# Altium schematic symbol library hphonglib.SchLib: 598 symbols (part 5 of 8)
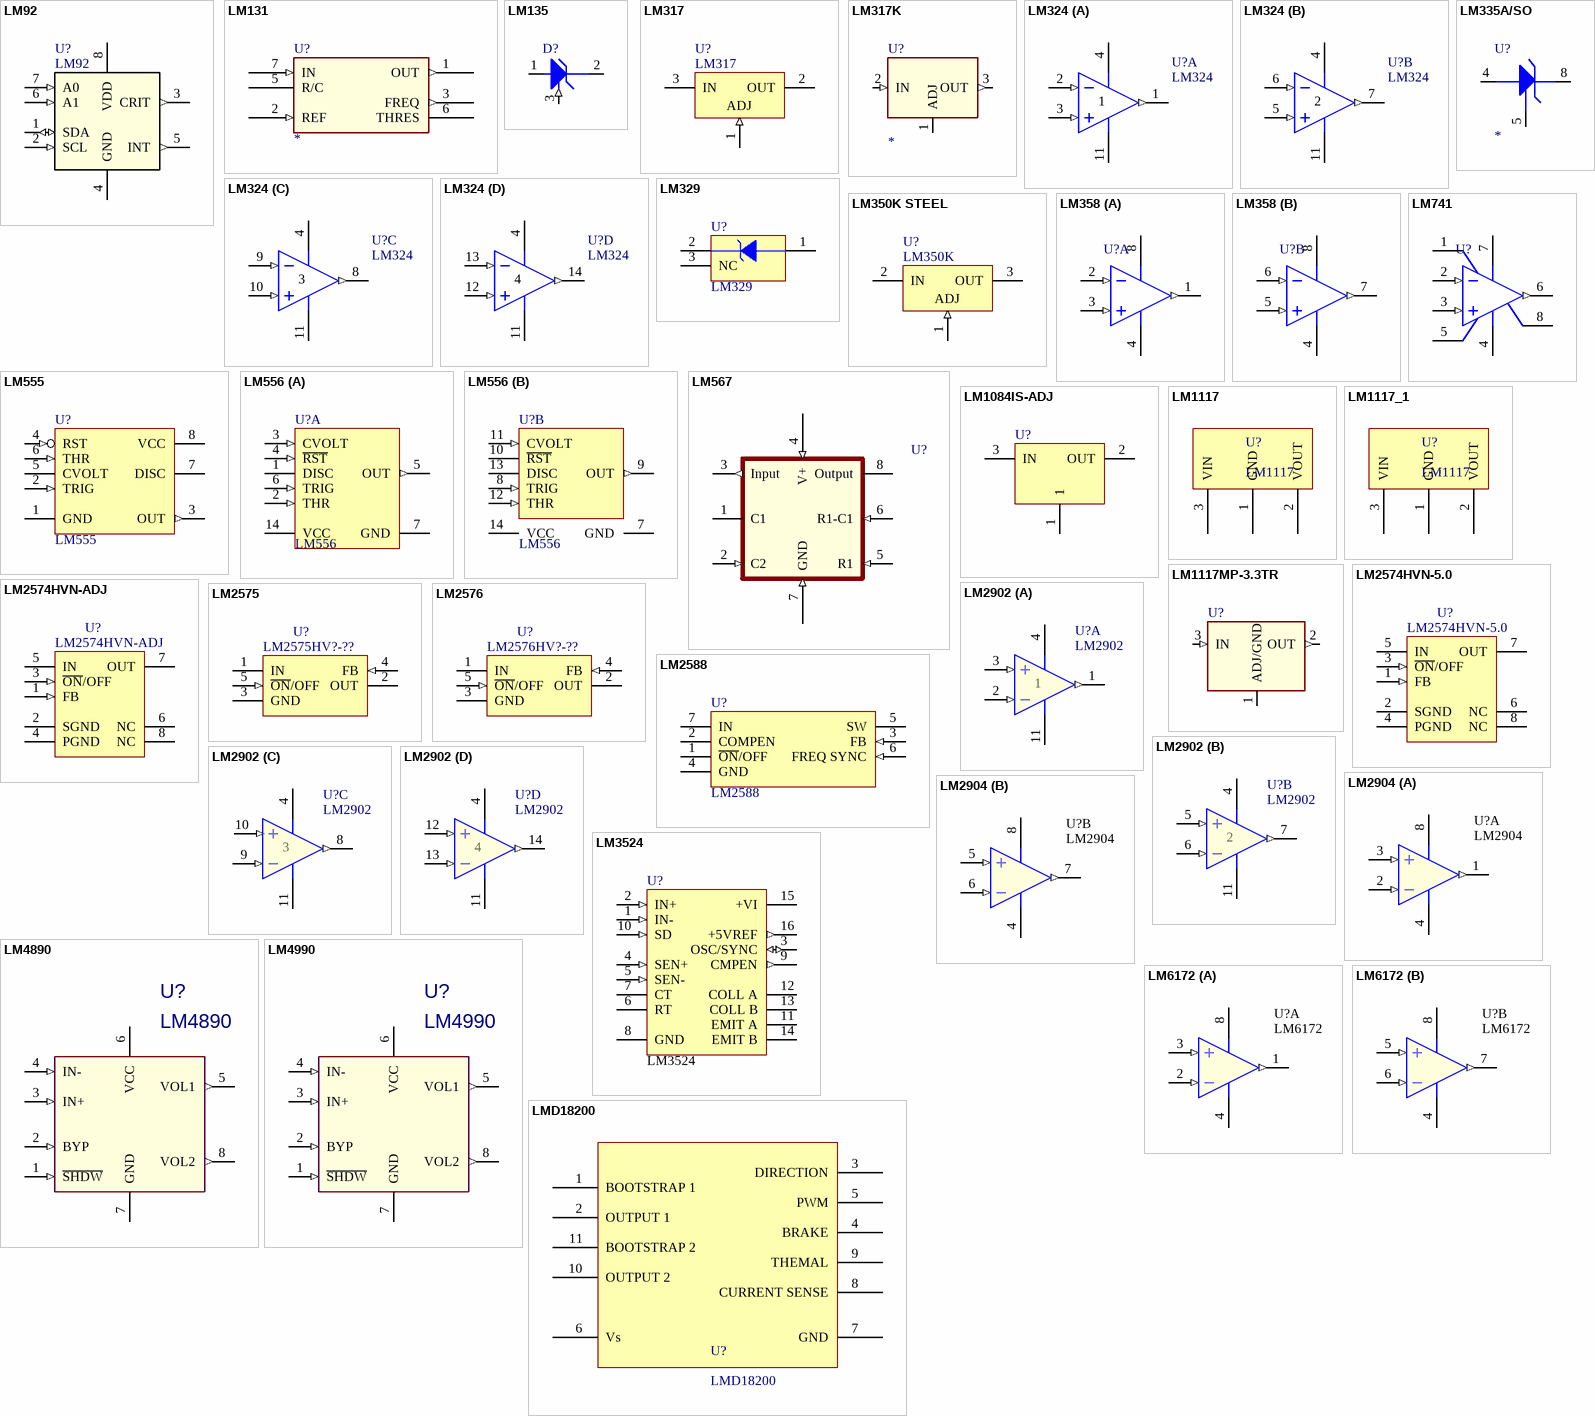
[diagram p35: symbols LM92 to LMD18200]

## LM2902
designator U?
Low-Power Quad Operational Amplifier; Published: 15-Apr-2002; LatestRevisionDate: 06-Jun-2005; LatestRevisionNote: Stylized 3D Model Added.; DatasheetVersion: May-1999; PackageVersion: 2000; PackageReference: N14A; Publisher: Altium Limited; PackageDescription: DIP; 14 Leads; Row Spacing 7.62 mm; Pitch 2.54 mm; ComponentLink1Description: Manufacturer Link; ComponentLink1URL: http://www.national.com/; ComponentLink2Description: Datasheet; ComponentLink2URL: http://www.national.com/ds.cgi/LM/LM124.pdf; ComponentLink3Description: URL Link1; ComponentLink3URL: http://www.national.com/pf/LM/LM324.html
footprint DIP14 (DIP; 14 Leads; Row Spacing 7.62 mm; Pitch 2.54 mm)
footprint SOIC14 (SOIC, 14-Leads, Body 8.6x3.9mm, Pitch 1.27mm, IPC Medium Density)
pins on every part: 4 V+ (power), 11 GND (power)
part A pins: 1 OUT (out), 2 IN- (in), 3 IN+ (in)
part B pins: 5 IN+ (in), 6 IN- (in), 7 OUT (out)
part C pins: 8 OUT (out), 9 IN- (in), 10 IN+ (in)
part D pins: 12 IN+ (in), 13 IN- (in), 14 OUT (out)

## LM2904
designator U?
Low-Power Dual Operational Amplifier; Published: 15-Apr-2002; LatestRevisionDate: 06-Jun-2005; LatestRevisionNote: Stylized 3D Model Added.; DatasheetVersion: Sep-1999; PackageVersion: Sep-1997; PackageReference: N08E; Publisher: Altium Limited; PackageDescription: DIP; 8 Leads; Row Spacing 7.62 mm; Pitch 2.54 mm; ComponentLink1Description: Manufacturer Link; ComponentLink1URL: http://www.national.com/; ComponentLink2Description: Datasheet; ComponentLink2URL: http://www.national.com/ds.cgi/LM/LM158.pdf; ComponentLink3Description: URL Link1; ComponentLink3URL: http://www.national.com/pf/LM/LM358.html
footprint DIP-8 (DIP; 8 Leads; Row Spacing 7.62 mm; Pitch 2.54 mm)
footprint SOIC8 (SOIC, 8-Leads, Body 4.9x3.9mm, Pitch 1.27mm, IPC Medium Density)
pins on every part: 4 GND (power), 8 V+ (power)
part A pins: 1 OUT (out), 2 IN- (in), 3 IN+ (in)
part B pins: 5 IN+ (in), 6 IN- (in), 7 OUT (out)

## LM3524
designator U?
Regulating Pulse Width Modulator; Published: 15-Apr-2002; LatestRevisionDate: 06-Jun-2005; LatestRevisionNote: Stylized 3D Model Added.; DatasheetVersion: Jun-1999; PackageVersion: 2000; PackageReference: N16E; Publisher: Altium Limited; PackageDescription: DIP; 16 Leads; Row Spacing 7.62 mm; Pitch 2.54 mm; ComponentLink1Description: Manufacturer Link; ComponentLink1URL: http://www.national.com/; ComponentLink2Description: Datasheet; ComponentLink2URL: http://www.national.com/ds.cgi/LM/LM2524D.pdf; ComponentLink3Description: URL Link1; ComponentLink3URL: http://www.national.com/pf/LM/LM3524D.html
footprint DIP16 (DIP; 16 Leads; Row Spacing 7.62 mm; Pitch 2.54 mm)
footprint SOIC16 (SOIC, 16-Leads, Body 10.3x7.5mm, Pitch 1.27mm, IPC Medium Density)
pins: 1 IN- (in), 2 IN+ (in), 3 OSC/SYNC (io), 4 SEN+ (in), 5 SEN- (in), 6 RT, 7 CT, 8 GND (power), 9 CMPEN (out), 10 SD (in), 11 EMIT A, 12 COLL A, 13 COLL B, 14 EMIT B, 15 +VI (power), 16 +5VREF (out)

## LM4890
designator U?
Audio power amplifier - 1 W RMS; Value: *; ComponentLink2URL: H:\LIBRARY\LIBRARY.Datasheet\
footprint SOIC8 (SOIC, 8-Leads, Body 4.9x3.9mm, Pitch 1.27mm, IPC Medium Density)
pins: 1 ~{SHDW} (in), 2 BYP (in), 3 IN+ (in), 4 IN- (in), 5 VOL1 (out), 6 VCC (power), 7 GND (power), 8 VOL2 (out)

## LM4990
designator U?
Audio power amplifier - 2 W RMS; Value: *; ComponentLink2URL: H:\LIBRARY\LIBRARY.Datasheet\
footprint SOIC8 (SOIC, 8-Leads, Body 4.9x3.9mm, Pitch 1.27mm, IPC Medium Density)
pins: 1 ~{SHDW} (in), 2 BYP (in), 3 IN+ (in), 4 IN- (in), 5 VOL1 (out), 6 VCC (power), 7 GND (power), 8 VOL2 (out)

## LM6172
designator U?
Dual High-Speed, Low-Power, Low-Distortion, Voltage Feedback Amplifier; Published: 15-Apr-2002; LatestRevisionDate: 06-Jun-2005; LatestRevisionNote: Stylized 3D Model Added.; DatasheetVersion: Sep-1999; PackageVersion: Sep-1997; PackageReference: N08E; Publisher: Altium Limited; PackageDescription: DIP; 8 Leads; Row Spacing 7.62 mm; Pitch 2.54 mm; ComponentLink1Description: Manufacturer Link; ComponentLink1URL: http://www.national.com/; ComponentLink2Description: Datasheet; ComponentLink2URL: http://www.national.com/ds.cgi/LM/LM158.pdf; ComponentLink3Description: URL Link1; ComponentLink3URL: http://www.national.com/pf/LM/LM358.html
footprint DIP-8 (DIP; 8 Leads; Row Spacing 7.62 mm; Pitch 2.54 mm)
footprint SOIC8 (SOIC, 8-Leads, Body 4.9x3.9mm, Pitch 1.27mm, IPC Medium Density)
pins on every part: 4 GND (power), 8 V+ (power)
part A pins: 1 OUT (out), 2 IN- (in), 3 IN+ (in)
part B pins: 5 IN+ (in), 6 IN- (in), 7 OUT (out)

## LMD18200
designator U?
3A, 55V H-Bridge
footprint TO-220-11 (TO-220; 11 Bent Staggered Leads; Solder Pad 35mil)
pins: 1 BOOTSTRAP 1, 2 OUTPUT 1, 3 DIRECTION, 4 BRAKE, 5 PWM, 6 Vs, 7 GND, 8 CURRENT SENSE, 9 THEMAL, 10 OUTPUT 2, 11 BOOTSTRAP 2

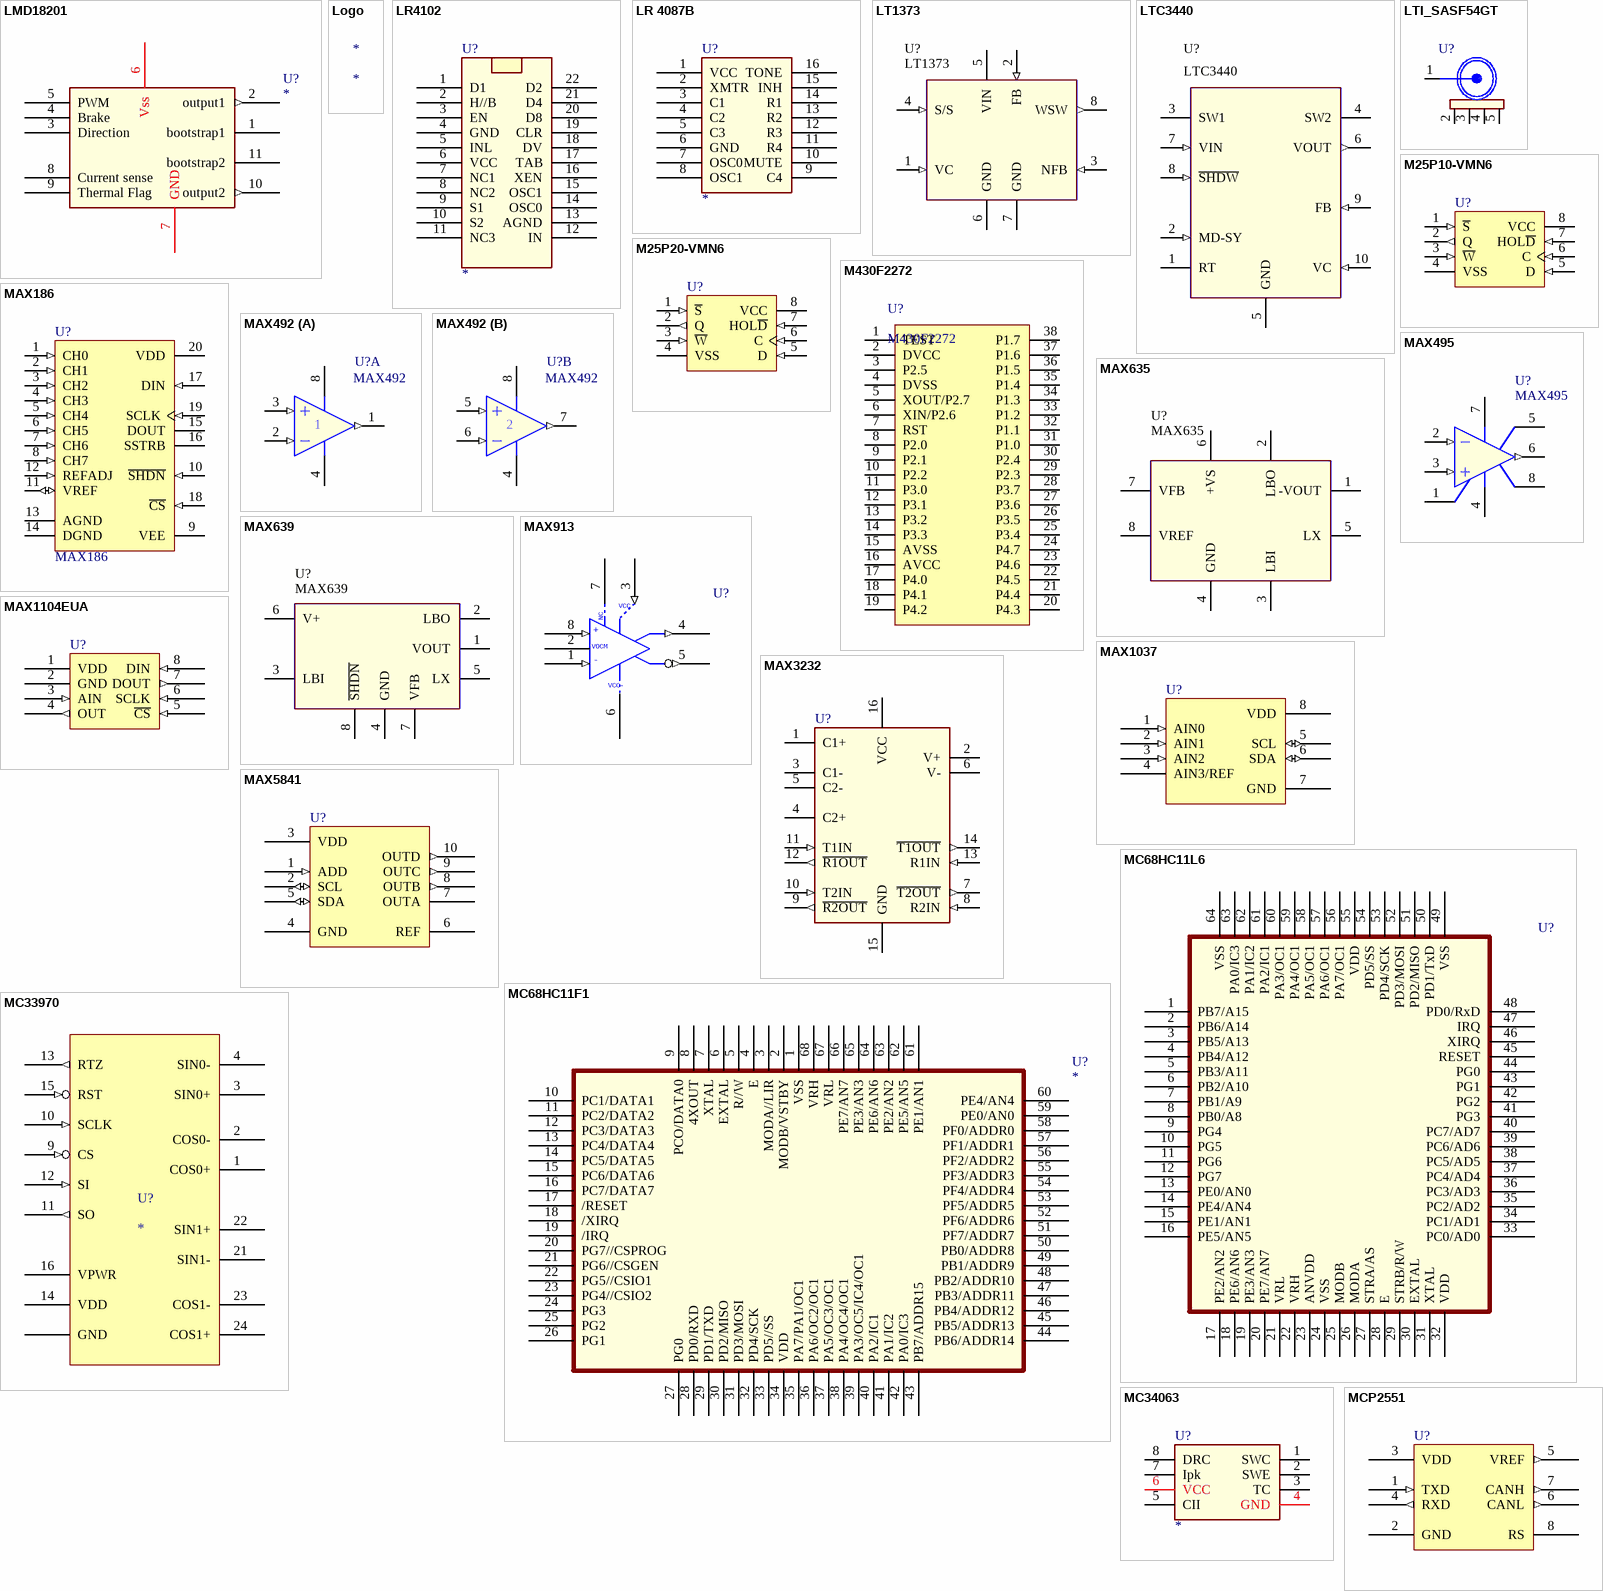
[diagram p16: symbols LMD18201 to MCP2551]

## LMD18201
designator U?
Vendor: Digikey; Published: 13-April-2009; Publisher: Hoang Nguyen; ComponentLink1Description: Digikey Part Link; ComponentLink2Description: Open Datasheet; ComponentLink2URL: H:\LIBRARY\LIBRARY.Datasheet\
pins: 1 bootstrap1, 2 output1 (out), 3 Direction, 4 Brake, 5 PWM, 6 Vss (power), 7 GND (power), 8 Current sense, 9 Thermal Flag, 10 output2 (out), 11 bootstrap2

## Logo
designator *
footprint logo USB
footprint LOGO.Philips
footprint LOGO.SAMSUNG
footprint logo elabvn
footprint SERIAL NUMBER - SMALL
footprint logo S/N top

## LR4102
designator U?
Vendor: Digikey; Published: 13-April-2009; Publisher: Hoang Nguyen; ComponentLink1Description: Digikey Part Link; ComponentLink2Description: Open Datasheet; ComponentLink2URL: H:\LIBRARY\LIBRARY.Datasheet\
pins: 1 D1, 2 H//B, 3 EN, 4 GND (power), 5 INL, 6 VCC (power), 7 NC1 (power), 8 NC2 (power), 9 S1 (power), 10 S2 (power), 11 NC3 (power), 12 IN (power), 13 AGND (power), 14 OSC0 (power), 15 OSC1 (power), 16 XEN (power), 17 TAB (power), 18 DV (power), 19 CLR (power), 20 D8 (power), 21 D4 (power), 22 D2 (power)

## LR 4087B
designator U?
Vendor: Digikey; Published: 13-April-2009; Publisher: Hoang Nguyen; ComponentLink1Description: Digikey Part Link; ComponentLink2Description: Open Datasheet; ComponentLink2URL: H:\LIBRARY\LIBRARY.Datasheet\
pins: 1 VCC (power), 2 XMTR, 3 C1, 4 C2, 5 C3, 6 GND (power), 7 OSC0, 8 OSC1, 9 C4, 10 MUTE, 11 R4, 12 R3, 13 R2, 14 R1, 15 INH, 16 TONE

## LT1373
designator U?
250 KHz Low Supply Current High Efficiency 1.5A Switching Regulator; Value: *; ComponentLink2URL: H:\LIBRARY\LIBRARY.Datasheet\
footprint DIP-8 (DIP; 8 Leads; Row Spacing 7.62 mm; Pitch 2.54 mm)
footprint SOIC8 (SOIC, 8-Leads, Body 4.9x3.9mm, Pitch 1.27mm, IPC Medium Density)
pins: 1 VC (in), 2 FB (in), 3 NFB (in), 4 S/S (in), 5 VIN (power), 6 GND (power), 7 GND (power), 8 WSW (out)

## LTC3440
designator U?
Micropower Synchronous Buck-Boost DC/DC Converter; Value: *; ComponentLink2URL: H:\LIBRARY\LIBRARY.Datasheet\
footprint MSOP-10 (MSOP, Plastic; 10 Leads; Body 3x3 mm; Pitch 0.5 mm)
pins: 1 RT, 2 MD-SY (in), 3 SW1, 4 SW2, 5 GND (power), 6 VOUT (out), 7 VIN (in), 8 ~{SHDW} (in), 9 FB (in), 10 VC (in)

## LTI_SASF54GT
designator U?  (value not drawn)
CONNECTOR, SMA, 3.5MM EDGE LAUNCH JACK, AIR CORE DIELECTRIC; Manufacturer: Lighthorse Technologies Inc; ComponentLink1Description: Digikey Part Link; ComponentLink2Description: Open Datasheet; ComponentLink2URL: H:\LIBRARY\LIBRARY.Datasheet\
footprint SMA_RA
pins: 1, 2 (power), 3 (power), 4 (power), 5 (power)

## M25P10-VMN6
designator U?
8 Mbit, Low Voltage, Serial Flash Memory With 40 MHz SPI Bus Interface; Vendor: Digikey; Published: 5-Jan-2004; DatasheetDocument: Nov-2003; Publisher: Altium Limited; ComponentLink1Description: Digikey Part Link; ComponentLink2Description: Open Datasheet; ComponentLink2URL: H:\LIBRARY\LIBRARY.Datasheet\
footprint SO8_MW/SO8_MN (Small Outline; 8 Leads; Body Width 5.2 mm; Pitch 1.27 mm)
pcadlib SO8_MW/SO8_MN (Small Outline; 8 Leads; Body Width 5.2 mm; Pitch 1.27 mm)
pins: 1 ~{S} (in), 2 Q (out) "Serial Output", 3 ~{W} (in) "Serial Output", 4 VSS (power) "Serial Output", 5 D (in) "Serial Input", 6 C (in) "Serial Input", 7 HOL~{D} (in) "Serial Input", 8 VCC (power) "Serial Input"

## M25P20-VMN6
designator U?
8 Mbit, Low Voltage, Serial Flash Memory With 40 MHz SPI Bus Interface; Vendor: Digikey; Published: 5-Jan-2004; DatasheetDocument: Nov-2003; Publisher: Altium Limited; ComponentLink1Description: Digikey Part Link; ComponentLink2Description: Open Datasheet; ComponentLink2URL: H:\LIBRARY\LIBRARY.Datasheet\
footprint SO8_MW/SO8_MN (Small Outline; 8 Leads; Body Width 5.2 mm; Pitch 1.27 mm)
pcadlib SO8_MW/SO8_MN (Small Outline; 8 Leads; Body Width 5.2 mm; Pitch 1.27 mm)
pins: 1 ~{S} (in), 2 Q (out) "Serial Output", 3 ~{W} (in) "Serial Output", 4 VSS (power) "Serial Output", 5 D (in) "Serial Input", 6 C (in) "Serial Input", 7 HOL~{D} (in) "Serial Input", 8 VCC (power) "Serial Input"

## M430F2272
designator U?
footprint DB038 (SSOP, Plastic; 38 Leads; Body Width 5.3 mm; Pitch 0.65 mm)
pins: 1 TEST, 2 DVCC, 3 P2.5, 4 DVSS, 5 XOUT/P2.7, 6 XIN/P2.6, 7 RST, 8 P2.0, 9 P2.1, 10 P2.2, 11 P3.0, 12 P3.1, 13 P3.2, 14 P3.3, 15 AVSS, 16 AVCC, 17 P4.0, 18 P4.1, 19 P4.2, 20 P4.3, 21 P4.4, 22 P4.5, 23 P4.6, 24 P4.7, 25 P3.4, 26 P3.5, 27 P3.6, 28 P3.7, 29 P2.3, 30 P2.4, 31 P1.0, 32 P1.1, 33 P1.2, 34 P1.3, 35 P1.4, 36 P1.5, 37 P1.6, 38 P1.7

## MAX186
designator U?
Low-Power, 8-Channel Serial 12-Bit ADCs; Published: 16-Jan-2001; LatestRevisionDate: 06-Jun-2005; LatestRevisionNote: Stylized 3D Model Added.; DatasheetVersion: Aug-1996; PackageVersion: 1997; PackageReference: SSOP20; Publisher: Altium Limited; PackageDescription: SSOP; 20 Leads; Body Width 5.3 mm; Pitch 0.65 mm; ComponentLink1Description: Manufacturer Link; ComponentLink1URL: http://www.maxim-ic.com/; ComponentLink2Description: Datasheet; ComponentLink2URL: http://pdfserv.maxim-ic.com/en/ds/MAX186-MAX188.pdf
footprint DIP20 (DIP; 20 Leads; Row Spacing 7.62 mm; Pitch 2.54 mm)
footprint SOIC20-W (SOIC, 20-Leads, Body 12.8x7.5mm, Pitch 1.27mm, IPC Medium Density)
pins: 1 CH0 (in), 2 CH1 (in), 3 CH2 (in), 4 CH3 (in), 5 CH4 (in), 6 CH5 (in), 7 CH6 (in), 8 CH7 (in), 9 VEE (power), 10 ~{SHDN} (in), 11 VREF (io), 12 REFADJ (in), 13 AGND (power), 14 DGND (power), 15 DOUT (hiz), 16 SSTRB (hiz), 17 DIN (in), 18 ~{CS} (in), 19 SCLK (in), 20 VDD (power)

## MAX492
designator U?
Dual Voltage-Feedback Operational Amplifier; Published: 23-Sep-2002; LatestRevisionDate: 06-Jun-2005; LatestRevisionNote: Stylized 3D Model Added.; DatasheetVersion: Rev 2; 9/96; PackageVersion: RevB, 21-0043; PackageReference: PA8; Publisher: Altium Limited; PackageDescription: DIP; 8 Leads; Row Spacing 7.62 mm; Pitch 2.54 mm; Code_JEDEC: MS-001-AB; ComponentLink1Description: Manufacturer Link; ComponentLink1URL: http://www.maxim-ic.com/; ComponentLink2Description: Datasheet; ComponentLink2URL: http://pdfserv.maxim-ic.com/en/ds/MAX492-MAX495.pdf
footprint DIP-8 (DIP; 8 Leads; Row Spacing 7.62 mm; Pitch 2.54 mm)
footprint SOIC8 (SOIC, 8-Leads, Body 4.9x3.9mm, Pitch 1.27mm, IPC Medium Density)
pins on every part: 4 VEE (power), 8 VCC (power)
part A pins: 1 OUT (out), 2 IN- (in), 3 IN+ (in)
part B pins: 5 IN+ (in), 6 IN- (in), 7 OUT (out)

## MAX495
designator U?
Single Voltage-Feedback Operational Amplifier; Published: 23-Sep-2002; LatestRevisionDate: 06-Jun-2005; LatestRevisionNote: Stylized 3D Model Added.; DatasheetVersion: Rev 2; 9/96; PackageVersion: RevB, 21-0043; PackageReference: PA8; Publisher: Altium Limited; PackageDescription: DIP; 8 Leads; Row Spacing 7.62 mm; Pitch 2.54 mm; Code_JEDEC: MS-001-AB; ComponentLink1Description: Manufacturer Link; ComponentLink1URL: http://www.maxim-ic.com/; ComponentLink2Description: Datasheet; ComponentLink2URL: http://pdfserv.maxim-ic.com/en/ds/MAX492-MAX495.pdf
footprint DIP-8 (DIP; 8 Leads; Row Spacing 7.62 mm; Pitch 2.54 mm)
footprint SOIC8 (SOIC, 8-Leads, Body 4.9x3.9mm, Pitch 1.27mm, IPC Medium Density)
pins: 1 NULL, 2 IN- (in), 3 IN+ (in), 4 VEE (power), 5 NULL, 6 OUT (out), 7 VCC (power), 8 NC

## MAX635
designator U?
Charge pump voltage inverter; Value: *; ComponentLink2URL: H:\LIBRARY\LIBRARY.Datasheet\
footprint DIP-8 (DIP; 8 Leads; Row Spacing 7.62 mm; Pitch 2.54 mm)
pins: 1 -VOUT, 2 LBO, 3 LBI, 4 GND, 5 LX, 6 +VS, 7 VFB, 8 VREF

## MAX639
designator U?
Low Power Step down switch egulator; Value: *; ComponentLink2URL: H:\LIBRARY\LIBRARY.Datasheet\
footprint DIP-8 (DIP; 8 Leads; Row Spacing 7.62 mm; Pitch 2.54 mm)
pins: 1 VOUT, 2 LBO, 3 LBI, 4 GND, 5 LX, 6 V+, 7 VFB, 8 ~{SHDN}

## MAX913
designator U?  (value not drawn)
Single/Dual, Ultra-Fast, Low-Power, Precision TTL Comparators; Manufacturer: Maxim; Volt: 5V; ComponentLink1Description: Digikey Part Link; ComponentLink2Description: Open Datasheet; ComponentLink2URL: H:\LIBRARY\LIBRARY.Datasheet\
pins: 1 V_IN- (in), 2 VOCM (power), 3 VCC (in), 4 VOUT+ (out), 5 ~{VOUT}- (out), 6 GND (power), 7 NC, 8 V_IN+ (in)
text: +; -; VCC-

## MAX1037
designator U?
4 Channel 8 Bit ADC, I2C interface, 2.7V to 3.6V Supply; Vendor: Digikey; Published: 5-Jan-2004; DatasheetDocument: Rev1, Oct-2002; Publisher: Altium Limited; ComponentLink1Description: Digikey Part Link; ComponentLink2Description: Open Datasheet; ComponentLink2URL: H:\LIBRARY\LIBRARY.Datasheet\
footprint SOT23_8 (Small Outline; 8 Leads; Body 2.9 x 1.6 mm (LxW max))
pcadlib SOT23_8 (Small Outline; 8 Leads; Body 2.9 x 1.6 mm (LxW max))
pins: 1 AIN0 (in) "Analog Input 0", 2 AIN1 (in) "Analog Input 0", 3 AIN2 (in) "Analog Input 0", 4 AIN3/REF (power) "Analog Input 3/ Reference Input", 5 SCL (io) "I2C Clock Line", 6 SDA (io) "I2C Data Line", 7 GND (power), 8 VDD (power) "Positive Supply"

## MAX1104EUA
designator U?
8 bit CODEC with 4 wire logic interface; Vendor: Digikey; Published: 5-Jan-2004; DatasheetDocument: Rev0, Dec-2000; Publisher: Altium Limited; ComponentLink1Description: Digikey Part Link; ComponentLink2Description: Open Datasheet; ComponentLink2URL: H:\LIBRARY\LIBRARY.Datasheet\
footprint TSSO3x5-G8/X.35 (Shrink Small Outline; 8 Leads; Body Width 3 mm; Pitch 0.65 mm)
pcadlib TSSO3x5-G8/X.35 (Shrink Small Outline; 8 Leads; Body Width 3 mm; Pitch 0.65 mm)
pins: 1 VDD (power) "Positive Supply 2V7 5V5", 2 GND (power), 3 AIN (in) "Analog Input", 4 OUT (out) "Analog Output", 5 ~{CS} (in) "Chip Select", 6 SCLK (in) "Serial Clock", 7 DOUT (out) "Serial Output", 8 DIN (in) "SPI Serial Input"

## MAX3232
designator U?  (value not drawn)
3.0V TO 5.5V, Low-Power, up to 1Mbps, True RS-232 Transceiver Using Four 0.1µF External Capacitor; Manufacturer: Maxim Integrated Products; Manufacturer P/N: MAX3232CSE+; Vendor: Digikey; Vendor P/N: MAX3232CSE+-ND; Published: 13-April-2009; Publisher: Hoang Nguyen; ComponentLink1Description: Digikey Part Link; ComponentLink2Description: Open Datasheet; ComponentLink2URL: H:\LIBRARY\LIBRARY.Datasheet\; Price: 10000 VND
footprint SOIC16 - MAX232 Label (Small Outline; 16 Leads; Body Width 3.5 mm; Pitch 1.27 mm)
pins: 1 C1+, 2 V+ (power), 3 C1-, 4 C2+, 5 C2-, 6 V- (power), 7 ~{T2OUT} (out), 8 R2IN (in), 9 ~{R2OUT} (out), 10 T2IN (in), 11 T1IN (in), 12 ~{R1OUT} (out), 13 R1IN (in), 14 ~{T1OUT} (out), 15 GND (power), 16 VCC (power)

## MAX5841
designator U?
4 Channel DAC, I2C, 2.7V to 5.5V; Vendor: Digikey; Published: 5-Jan-2004; DatasheetDocument: Rev0, Jan-2002; Publisher: Altium Limited; ComponentLink1Description: Digikey Part Link; ComponentLink2Description: Open Datasheet; ComponentLink2URL: H:\LIBRARY\LIBRARY.Datasheet\
footprint USOP10 (Shrink Small Outline; 10 Leads; Body Width 3 mm; Pitch 0.5 mm)
pcadlib USOP10 (Shrink Small Outline; 10 Leads; Body Width 3 mm; Pitch 0.5 mm)
pins: 1 ADD (in) "I2C Address Select", 2 SCL (io) "I2C Clock", 3 VDD (power) "Positive Supply 2.7V to 5.5V", 4 GND (power), 5 SDA (io) "GND", 6 REF "Reference Voltage Input 1V to VDD", 7 OUTA "DAC Output", 8 OUTB (out) "DAC Output", 9 OUTC (out) "DAC Output", 10 OUTD (out) "DAC Output"

## MC68HC11F1
designator U?
Motorola MCU; Flash: Kb; SRAM: Bytes; Volt: V; CPU Speed (MIPS): 0 MIPS; ComponentLink1Description: Degikey Part link; ComponentLink2Description: Open DataSheet; ComponentLink2URL: H:\LIBRARY\LIBRARY.Datasheet\; Manufacturer: Motorola; Publisher: Hoang Nguyen
pins: 1 VSS (power), 2 MODB/VSTBY, 3 MODA//LIR, 4 E, 5 R//W, 6 EXTAL, 7 XTAL, 8 4XOUT, 9 PCO/DATA0, 10 PC1/DATA1, 11 PC2/DATA2, 12 PC3/DATA3, 13 PC4/DATA4, 14 PC5/DATA5, 15 PC6/DATA6, 16 PC7/DATA7, 17 /RESET, 18 /XIRQ, 19 /IRQ, 20 PG7//CSPROG, 21 PG6//CSGEN, 22 PG5//CSIO1, 23 PG4//CSIO2, 24 PG3, 25 PG2, 26 PG1, 27 PG0, 28 PD0/RXD, 29 PD1/TXD, 30 PD2/MISO, 31 PD3/MOSI, 32 PD4/SCK, 33 PD5//SS, 34 VDD (power), 35 PA7/PA1/OC1, 36 PA6/OC2/OC1, 37 PA5/OC3/OC1, 38 PA4/OC4/OC1, 39 PA3/OC5/IC4/OC1, 40 PA2/IC1, 41 PA1/IC2, 42 PA0/IC3, 43 PB7/ADDR15, 44 PB6/ADDR14, 45 PB5/ADDR13, 46 PB4/ADDR12, 47 PB3/ADDR11, 48 PB2/ADDR10, 49 PB1/ADDR9, 50 PB0/ADDR8, 51 PF7/ADDR7, 52 PF6/ADDR6, 53 PF5/ADDR5, 54 PF4/ADDR4, 55 PF3/ADDR3, 56 PF2/ADDR2, 57 PF1/ADDR1, 58 PF0/ADDR0, 59 PE0/AN0, 60 PE4/AN4, 61 PE1/AN1, 62 PE5/AN5, 63 PE2/AN2, 64 PE6/AN6, 65 PE3/AN3, 66 PE7/AN7, 67 VRL, 68 VRH

## MC68HC11L6
designator U?  (value not drawn)
Motorola MCU; Flash: Kb; SRAM: Bytes; Volt: V; CPU Speed (MIPS): 0 MIPS; ComponentLink1Description: Degikey Part link; ComponentLink2Description: Open DataSheet; ComponentLink2URL: H:\LIBRARY\LIBRARY.Datasheet\; Manufacturer: Motorola; Publisher: Hoang Nguyen
footprint MC68HC11L6
pins: 1 PB7/A15, 2 PB6/A14, 3 PB5/A13, 4 PB4/A12, 5 PB3/A11, 6 PB2/A10, 7 PB1/A9, 8 PB0/A8, 9 PG4, 10 PG5, 11 PG6, 12 PG7, 13 PE0/AN0, 14 PE4/AN4, 15 PE1/AN1, 16 PE5/AN5, 17 PE2/AN2, 18 PE6/AN6, 19 PE3/AN3, 20 PE7/AN7, 21 VRL, 22 VRH, 23 ANVDD (power), 24 VSS (power), 25 MODB, 26 MODA, 27 STRA/AS, 28 E, 29 STRB/R/W, 30 EXTAL, 31 XTAL, 32 VDD (power), 33 PC0/AD0, 34 PC1/AD1, 35 PC2/AD2, 36 PC3/AD3, 37 PC4/AD4, 38 PC5/AD5, 39 PC6/AD6, 40 PC7/AD7, 41 PG3, 42 PG2, 43 PG1, 44 PG0, 45 RESET, 46 XIRQ, 47 IRQ, 48 PD0/RxD, 49 VSS (power), 50 PD1/TxD, 51 PD2/MISO, 52 PD3/MOSI, 53 PD4/SCK, 54 PD5/SS, 55 VDD (power), 56 PA7/OC1, 57 PA6/OC1, 58 PA5/OC1, 59 PA4/OC1, 60 PA3/OC1, 61 PA2/IC1, 62 PA1/IC2, 63 PA0/IC3, 64 VSS (power)

## MC33970
designator U?
Dual Gauge Driver Integrated Circuit with Improved Damping Algorithms
footprint SOIC-24W (SOIC, 24-Leads, Body 15.4x7.5mm, Pitch 1.27mm, IPC High Density)
pins: 1 COS0+, 2 COS0-, 3 SIN0+, 4 SIN0-, 5 GND, 6 GND hidden to 5, 7 GND hidden to 5, 8 GND hidden to 5, 9 CS (in), 10 SCLK (in), 11 SO (out), 12 SI (in), 13 RTZ (out), 14 VDD, 15 RST (in), 16 VPWR, 17 GND hidden to 5, 18 GND hidden to 5, 19 GND hidden to 5, 20 GND hidden to 5, 21 SIN1-, 22 SIN1+, 23 COS1-, 24 COS1+

## MC34063
designator U?
Vendor: Digikey; Published: 13-April-2009; Publisher: Hoang Nguyen; ComponentLink1Description: Digikey Part Link; ComponentLink2Description: Open Datasheet; ComponentLink2URL: H:\LIBRARY\LIBRARY.Datasheet\
footprint Dip8 (Dual Inline Package 8 pins)
footprint SO-G8 (Small Outline; 8 Leads; Body Width 3.5 mm; Pitch 1.27 mm)
pins: 1 SWC, 2 SWE, 3 TC, 4 GND, 5 CII, 6 VCC, 7 Ipk, 8 DRC

## MCP2551
designator U?
High Speed Can Transceiver; Vendor: Digikey; Published: 5-Jan-2004; DatasheetDocument: 28-Jul-2003; Publisher: Altium Limited; ComponentLink1Description: Digikey Part Link; ComponentLink2Description: Open Datasheet; ComponentLink2URL: H:\LIBRARY\LIBRARY.Datasheet\
footprint SOIC8 (Small Outline; 8 Leads; Body Width 3.9 mm; Pitch 1.27 mm)
pcadlib SOIC8 (Small Outline; 8 Leads; Body Width 3.9 mm; Pitch 1.27 mm)
pins: 1 TXD (in) "Screw Terminal", 2 GND (power), 3 VDD (power) "Positive Supply 4.5V to 5.5V", 4 RXD (out) "Receive Data", 5 VREF (out) "Reference Voltage", 6 CANL (out) "CAN Bus Low Line", 7 CANH (out) "CAN Bus High Line", 8 RS "Mode/Slope Setting"

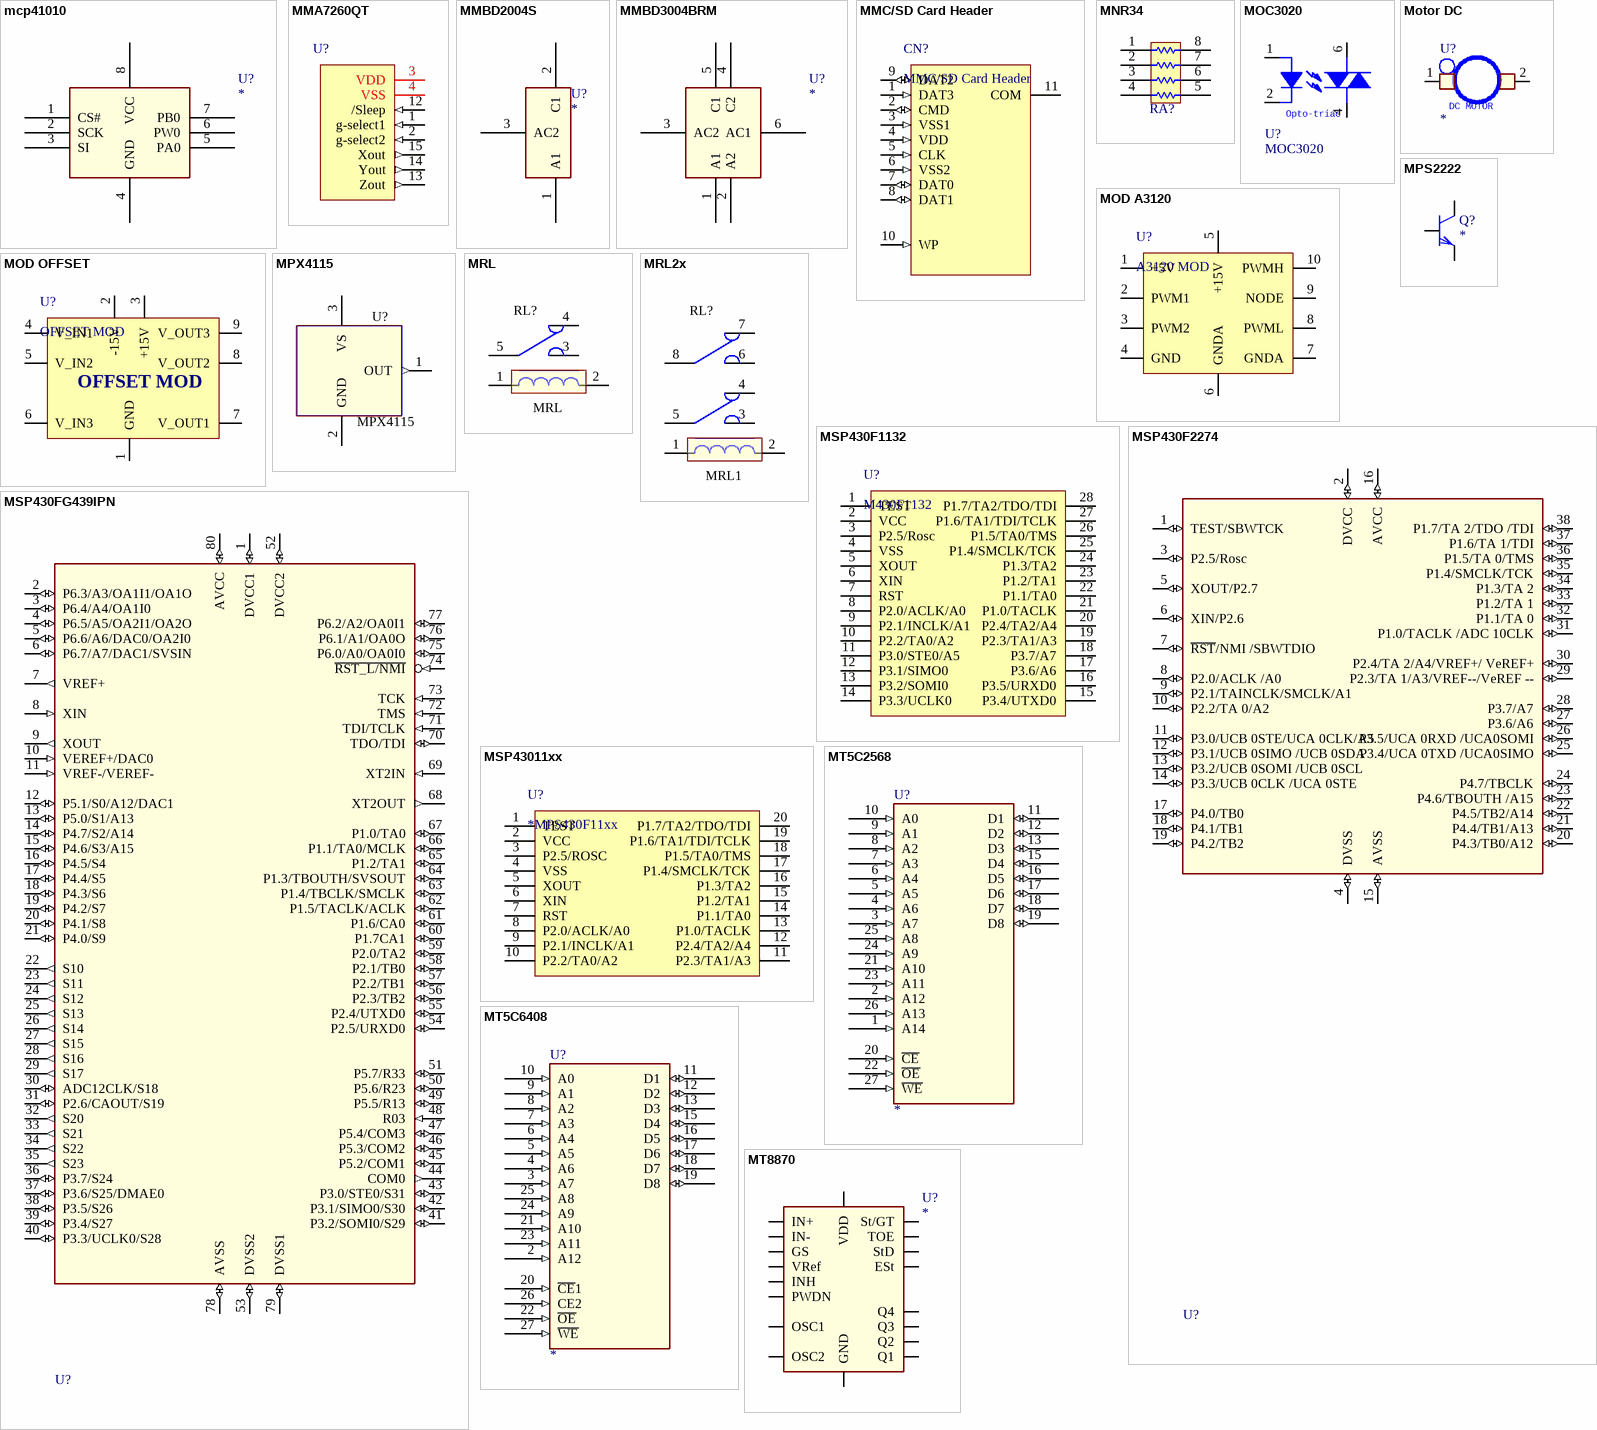
[diagram p17: symbols mcp41010 to MT8870]

## mcp41010
designator U?
Vendor: Digikey; Published: 13-April-2009; Publisher: Hoang Nguyen; ComponentLink1Description: Digikey Part Link; ComponentLink2Description: Open Datasheet; ComponentLink2URL: H:\LIBRARY\LIBRARY.Datasheet\
footprint IC8N
pins: 1 CS#, 2 SCK, 3 SI, 4 GND, 5 PA0, 6 PW0, 7 PB0, 8 VCC

## MMA7260QT
designator U?  (value not drawn)
Three Axis Low-g Micromachined Accelerometer; Manufacturer: FreeScale Semiconductor; Accelerometer: ±1.5g, 2g, 4g, 6g; Voltage Rating: 3.3V; Vendor: Digikey; Publisher: Hoang Nguyen; ComponentLink1Description: Digikey Part Link; ComponentLink1URL: http://search.digikey.com/scripts/DkSearch/dksus.dll?Detail&name=MMA7260QT-ND; ComponentLink2Description: Open Datasheet; ComponentLink2URL: H:\LIBRARY\LIBRARY.Datasheet\MMA7260QT.pdf; Family: low-g; Feature: Linear; Published: 13-April-2009
footprint QFN16N.MMA7260QT (QFN, 16-Leads, Body 6.0x6.0mm (max), Pitch 1.00mm, IPC Medium Density)
pins: 1 g-select1 (in) "Logic input pin to select g level", 2 g-select2 (in) "Logic input pin to select g level", 3 VDD (power) "Power Supply Input", 4 VSS (power) "Power Supply Ground", 12 /Sleep (in) "Logic input pin to enable product or Sleep Mode", 13 Zout (out) "Z direction output voltage", 14 Yout (out) "Y direction output voltage", 15 Xout (out) "X direction output voltage"

## MMBD2004S
designator U?
ComponentLink1Description: Digikey Part Link; ComponentLink2Description: Open Datasheet; ComponentLink2URL: H:\LIBRARY\LIBRARY.Datasheet\
footprint SN65220
pins: 1 A1, 2 C1, 3 AC2

## MMBD3004BRM
designator U?
ComponentLink1Description: Digikey Part Link; ComponentLink2Description: Open Datasheet; ComponentLink2URL: H:\LIBRARY\LIBRARY.Datasheet\
footprint SN65220
pins: 1 A1, 2 A2, 3 AC2, 4 C2, 5 C1, 6 AC1

## MMC/SD Card Header
designator CN?
ComponentLink2Description: Open DataSheet; ComponentLink2URL: H:\LIBRARY\LIBRARY.Datasheet\
footprint SDCard/MMC
pins: 1 DAT3 (in), 2 CMD (io), 3 VSS1 (in), 4 VDD (in), 5 CLK (in), 6 VSS2 (in), 7 DAT0 (io), 8 DAT1 (io), 9 DAT2 (io), 10 WP (in), 11 COM

## MNR34
designator RA?
Resistor Array, 8 pin, 4 Element, 100 Ohms; Vendor: Digikey; Published: 5-Jan-2004; DatasheetDocument: 07-Jun-2001; Publisher: Altium Limited; ComponentLink1Description: Digikey Part Link; ComponentLink2Description: Open Datasheet; ComponentLink2URL: H:\LIBRARY\LIBRARY.Datasheet\
footprint MNR34 (Surface Mount, Chip Resistor Array; 5.2mm x 3.1 mm (LxW))
pcadlib MNR34 (Surface Mount, Chip Resistor Array; 5.2mm x 3.1 mm (LxW))
pins: 1, 2, 3, 4, 5, 6, 7, 8

## MOC3020
designator U?
Opto Triac; Vendor: Digikey; Published: 13-April-2009; Publisher: Hoang Nguyen; ComponentLink1Description: Digikey Part Link; ComponentLink2Description: Open Datasheet; ComponentLink2URL: H:\LIBRARY\LIBRARY.Datasheet\
footprint DIP6
footprint DIP6N
pins: 1, 2, 4, 6
text: Opto-triac

## MOD A3120
designator U?, comment A3120 MOD
footprint Header 10 (Connector; Header; 10 Position; Solder Pad 35mil)
pins: 1 +5V, 2 PWM1, 3 PWM2, 4 GND, 5 +15V, 6 GNDA, 7 GNDA, 8 PWML, 9 NODE, 10 PWMH

## MOD OFFSET
designator U?, comment OFFSET MOD
footprint Header 9 (Connector; Header; 9 Position; Solder Pad 35mil)
pins: 1 GND, 2 -15V, 3 +15V, 4 V_IN1, 5 V_IN2, 6 V_IN3, 7 V_OUT1, 8 V_OUT2, 9 V_OUT3

## Motor DC
designator U?
DC Motor; Vendor: Digikey; Published: 13-April-2009; Publisher: Hoang Nguyen; ComponentLink1Description: Digikey Part Link; ComponentLink2Description: Open Datasheet; ComponentLink2URL: H:\LIBRARY\LIBRARY.Datasheet\
pins: 1, 2
text: DC MOTOR

## MPS2222
designator Q?
PSpiceTemplate: Q^@REFDES %c %b %e @MODEL; Vendor: Digikey; Published: 13-April-2009; Publisher: Hoang Nguyen; ComponentLink1Description: Digikey Part Link; ComponentLink2Description: Open Datasheet; ComponentLink2URL: H:\LIBRARY\LIBRARY.Datasheet\
footprint TO92
simulation model MPS2222
pins: 1 e, 2 b, 3 c

## MPX4115
designator U?
Pressure sensor - 150 - 1150 mBar; Value: *; ComponentLink2URL: H:\LIBRARY\LIBRARY.Datasheet\
footprint MPX4115
pins: 1 OUT (out), 2 GND (power), 3 VS (power)

## MRL
designator RL?  (value not drawn)
Micro-relè Body 15x10 mm - 1 x scambio; Vendor: Digikey; Value: *; Published: 13-April-2009; Publisher: Hoang Nguyen; ComponentLink1Description: Digikey Part Link; ComponentLink2Description: Open Datasheet; ComponentLink2URL: H:\LIBRARY\LIBRARY.Datasheet\
footprint MRL
pins: 1, 2, 3, 4, 5

## MRL2x
designator RL?  (value not drawn)
Micro-relè Body 22x10 mm - 2 ways; Vendor: Digikey; Value: *; Published: 13-April-2009; Publisher: Hoang Nguyen; ComponentLink1Description: Digikey Part Link; ComponentLink2Description: Open Datasheet; ComponentLink2URL: H:\LIBRARY\LIBRARY.Datasheet\
footprint MRL1
pins: 1, 2, 3, 4, 5, 6, 7, 8
text: MRL1

## MSP430F1132
designator U?, comment M430F1132
pins: 1 TEST, 2 VCC, 3 P2.5/Rosc, 4 VSS, 5 XOUT, 6 XIN, 7 RST, 8 P2.0/ACLK/A0, 9 P2.1/INCLK/A1, 10 P2.2/TA0/A2, 11 P3.0/STE0/A5, 12 P3.1/SIMO0, 13 P3.2/SOMI0, 14 P3.3/UCLK0, 15 P3.4/UTXD0, 16 P3.5/URXD0, 17 P3.6/A6, 18 P3.7/A7, 19 P2.3/TA1/A3, 20 P2.4/TA2/A4, 21 P1.0/TACLK, 22 P1.1/TA0, 23 P1.2/TA1, 24 P1.3/TA2, 25 P1.4/SMCLK/TCK, 26 P1.5/TA0/TMS, 27 P1.6/TA1/TDI/TCLK, 28 P1.7/TA2/TDO/TDI

## MSP430F2274
designator U?
16-bit MCU MSP430 family Texas Instrument; Flash: Kb; SRAM: Bytes; Volt: V; CPU Speed (MIPS): 0 MIPS; ComponentLink1Description: Degikey Part link; ComponentLink1URL: http://search.digikey.com/scripts/DkSearch/dksus.dll?Detail&name=296-17013-ND; ComponentLink2Description: Open DataSheet; ComponentLink2URL: H:\LIBRARY\LIBRARY.Datasheet\msp430fg437.pdf; Publisher: Hoang Nguyen; Manufacturer: Texas Instrument; Price: 13.24 [USD]
footprint SSOP-38 - MSP430F22xx (SSOP, Plastic; 38 Leads; Body Width 5.2 mm; Pitch 0.65 mm)
pins: 1 TEST/SBWTCK (io), 2 DVCC (io), 3 P2.5/Rosc (io), 4 DVSS (io), 5 XOUT/P2.7 (io), 6 XIN/P2.6 (io), 7 ~{RST}/NMI /SBWTDIO (io), 8 P2.0/ACLK /A0 (io), 9 P2.1/TAINCLK/SMCLK/A1 (io), 10 P2.2/TA 0/A2 (io), 11 P3.0/UCB 0STE/UCA 0CLK/A5 (io), 12 P3.1/UCB 0SIMO /UCB 0SDA (io), 13 P3.2/UCB 0SOMI /UCB 0SCL (io), 14 P3.3/UCB 0CLK /UCA 0STE (io), 15 AVSS (io), 16 AVCC (io), 17 P4.0/TB0 (io), 18 P4.1/TB1 (io), 19 P4.2/TB2 (io), 20 P4.3/TB0/A12 (io), 21 P4.4/TB1/A13 (io), 22 P4.5/TB2/A14 (io), 23 P4.6/TBOUTH /A15 (io), 24 P4.7/TBCLK (io), 25 P3.4/UCA 0TXD /UCA0SIMO (io), 26 P3.5/UCA 0RXD /UCA0SOMI (io), 27 P3.6/A6 (io), 28 P3.7/A7 (io), 29 P2.3/TA 1/A3/VREF--/VeREF -- (io), 30 P2.4/TA 2/A4/VREF+/ VeREF+ (io), 31 P1.0/TACLK /ADC 10CLK (io), 32 P1.1/TA 0 (io), 33 P1.2/TA 1 (io), 34 P1.3/TA 2 (io), 35 P1.4/SMCLK/TCK (io), 36 P1.5/TA 0/TMS (io), 37 P1.6/TA 1/TDI (io), 38 P1.7/TA 2/TDO /TDI (io)

## MSP430FG439IPN
designator U?
16-bit MCU MSP430 family Texas Instrument; Flash: Kb; SRAM: Bytes; Volt: V; CPU Speed (MIPS): 0 MIPS; ComponentLink1Description: Degikey Part link; ComponentLink1URL: http://search.digikey.com/scripts/DkSearch/dksus.dll?Detail&name=296-17013-ND; ComponentLink2Description: Open DataSheet; ComponentLink2URL: H:\LIBRARY\LIBRARY.Datasheet\msp430fg437.pdf; Publisher: Hoang Nguyen; Manufacturer: Texas Instrument; Price: 13.24 [USD]
footprint QUAD80.MSP430FG439 (80-Pin Thin Quad Flat Pack 0.5 mm Pitch, IPC Low Density)
pins: 1 DVCC1 (io), 2 P6.3/A3/OA1I1/OA1O (io), 3 P6.4/A4/OA1I0 (io), 4 P6.5/A5/OA2I1/OA2O (io), 5 P6.6/A6/DAC0/OA2I0 (io), 6 P6.7/A7/DAC1/SVSIN (io), 7 VREF+ (out), 8 XIN (in), 9 XOUT (out), 10 VEREF+/DAC0 (in), 11 VREF-/VEREF- (in), 12 P5.1/S0/A12/DAC1 (io), 13 P5.0/S1/A13 (io), 14 P4.7/S2/A14 (io), 15 P4.6/S3/A15 (io), 16 P4.5/S4 (io), 17 P4.4/S5 (io), 18 P4.3/S6 (io), 19 P4.2/S7 (io), 20 P4.1/S8 (io), 21 P4.0/S9 (io), 22 S10 (out), 23 S11 (out), 24 S12 (out), 25 S13 (out), 26 S14 (out), 27 S15 (out), 28 S16 (out), 29 S17 (out), 30 ADC12CLK/S18 (io), 31 P2.6/CAOUT/S19 (io), 32 S20 (out), 33 S21 (out), 34 S22 (out), 35 S23 (out), 36 P3.7/S24 (io), 37 P3.6/S25/DMAE0 (io), 38 P3.5/S26 (io), 39 P3.4/S27 (io), 40 P3.3/UCLK0/S28 (io), 41 P3.2/SOMI0/S29 (io), 42 P3.1/SIMO0/S30 (io), 43 P3.0/STE0/S31 (io), 44 COM0 (out), 45 P5.2/COM1 (io), 46 P5.3/COM2 (io), 47 P5.4/COM3 (io), 48 R03 (in), 49 P5.5/R13 (io), 50 P5.6/R23 (io), 51 P5.7/R33 (io), 52 DVCC2 (io), 53 DVSS2 (io), 54 P2.5/URXD0 (io), 55 P2.4/UTXD0 (io), 56 P2.3/TB2 (io), 57 P2.2/TB1 (io), 58 P2.1/TB0 (io), 59 P2.0/TA2 (io), 60 P1.7CA1 (io), 61 P1.6/CA0 (io), 62 P1.5/TACLK/ACLK (io), 63 P1.4/TBCLK/SMCLK (io), 64 P1.3/TBOUTH/SVSOUT (io), 65 P1.2/TA1 (io), 66 P1.1/TA0/MCLK (io), 67 P1.0/TA0 (io), 68 XT2OUT (out), 69 XT2IN (in), 70 TDO/TDI (io), 71 TDI/TCLK (in), 72 TMS (in), 73 TCK (in), 74 ~{RST_L/NMI} (in), 75 P6.0/A0/OA0I0 (io), 76 P6.1/A1/OA0O (io), 77 P6.2/A2/OA0I1 (io), 78 AVSS (io), 79 DVSS1 (io), 80 AVCC (io)

## MSP43011xx
designator U?, comment *MPS430F11xx
pins: 1 TEST, 2 VCC, 3 P2.5/ROSC, 4 VSS, 5 XOUT, 6 XIN, 7 RST, 8 P2.0/ACLK/A0, 9 P2.1/INCLK/A1, 10 P2.2/TA0/A2, 11 P2.3/TA1/A3, 12 P2.4/TA2/A4, 13 P1.0/TACLK, 14 P1.1/TA0, 15 P1.2/TA1, 16 P1.3/TA2, 17 P1.4/SMCLK/TCK, 18 P1.5/TA0/TMS, 19 P1.6/TA1/TDI/TCLK, 20 P1.7/TA2/TDO/TDI

## MT5C2568
designator U?
Vendor: Digikey; Published: 13-April-2009; Publisher: Hoang Nguyen; ComponentLink1Description: Digikey Part Link; ComponentLink2Description: Open Datasheet; ComponentLink2URL: H:\LIBRARY\LIBRARY.Datasheet\
pins: 1 A14 (in), 2 A12 (in), 3 A7 (in), 4 A6 (in), 5 A5 (in), 6 A4 (in), 7 A3 (in), 8 A2 (in), 9 A1 (in), 10 A0 (in), 11 D1 (io), 12 D2 (io), 13 D3 (io), 14 VSS (power) hidden to VSS, 15 D4 (io), 16 D5 (io), 17 D6 (io), 18 D7 (io), 19 D8 (io), 20 ~{CE} (in), 21 A10 (in), 22 ~{OE} (in), 23 A11 (in), 24 A9 (in), 25 A8 (in), 26 A13 (in), 27 ~{WE} (in), 28 VCC (power) hidden to VCC

## MT5C6408
designator U?
Vendor: Digikey; Published: 13-April-2009; Publisher: Hoang Nguyen; ComponentLink1Description: Digikey Part Link; ComponentLink2Description: Open Datasheet; ComponentLink2URL: H:\LIBRARY\LIBRARY.Datasheet\
pins: 2 A12 (in), 3 A7 (in), 4 A6 (in), 5 A5 (in), 6 A4 (in), 7 A3 (in), 8 A2 (in), 9 A1 (in), 10 A0 (in), 11 D1 (io), 12 D2 (io), 13 D3 (io), 14 VSS (power) hidden to VSS, 15 D4 (io), 16 D5 (io), 17 D6 (io), 18 D7 (io), 19 D8 (io), 20 ~{CE}1 (in), 21 A10 (in), 22 ~{OE} (in), 23 A11 (in), 24 A9 (in), 25 A8 (in), 26 CE2 (in), 27 ~{WE} (in), 28 VCC (power) hidden to VCC

## MT8870
designator U?
Vendor: Digikey; Published: 13-April-2009; Publisher: Hoang Nguyen; ComponentLink1Description: Digikey Part Link; ComponentLink2Description: Open Datasheet; ComponentLink2URL: H:\LIBRARY\LIBRARY.Datasheet\
pins: ESt, GND, GS, IN+, IN-, INH, OSC1, OSC2, PWDN, Q1, Q2, Q3, Q4, St/GT, StD, TOE, VDD, VRef

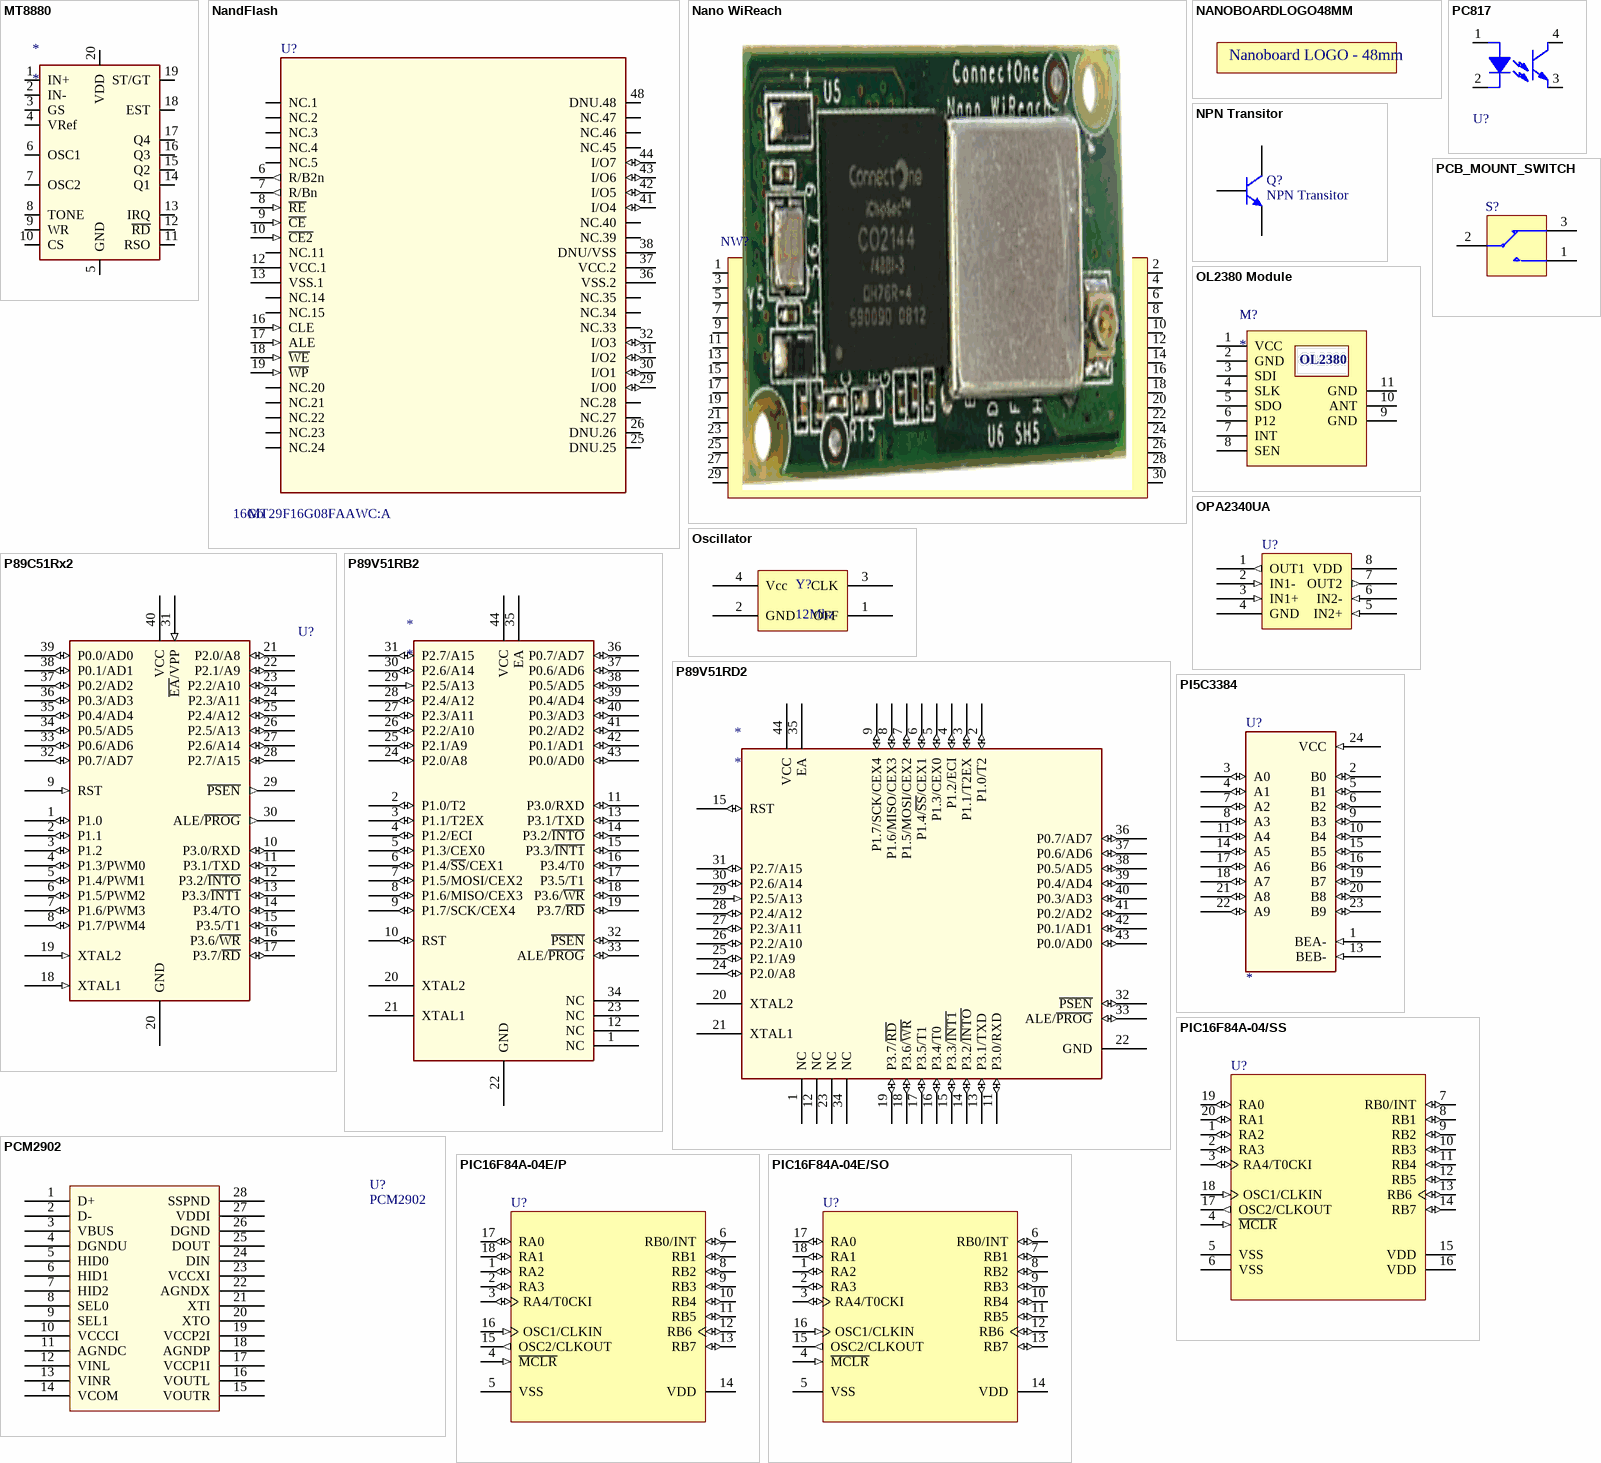
[diagram p18: symbols MT8880 to PIC16F84A-04E/SO]

## MT8880
designator *
footprint DIP20
pins: 1 IN+, 2 IN-, 3 GS, 4 VRef, 5 GND, 6 OSC1, 7 OSC2, 8 TONE, 9 WR, 10 CS, 11 RSO, 12 ~{RD}, 13 IRQ, 14 Q1, 15 Q2, 16 Q3, 17 Q4, 18 EST, 19 ST/GT, 20 VDD

## NandFlash
designator U?  value MT29F16G08FAAWC:A  Memory: 16Gb  (hidden comment: *)
Flash Mem Parallel 3.3V 16G-Bit 2G x 8 20ns 48-Pin TSOP-I; Manufacturer: Micron Technology; Cell Type: NAND; Boot Type: Not Required; Supply Current: 35mA; Vendor: Arrow; Publisher: Hoang Nguyen; ComponentLink1Description: Arrow Part Link; ComponentLink2Description: Open Datasheet; ComponentLink1URL: http://app.arrownac.com/aws/pg_webc/0,1086,,00.html?application=SEARCH&appid=nac&event=1020&docid=43001120S9265491N2596; ComponentLink2URL: H:\LIBRARY\LIBRARY.Datasheet\4gb_nand_m40a.pdf; Manufacturer P/N: MT29F16G08FAAWC:A; Access Time (Max): 20ns; Operating Supply Voltage (Typ): 3.3V; Price: $30.65; Package: TSOP-1 Surface Mount; Interface Type: Parallel
footprint SSOP48.Flash
pins: 1 NC.1, 2 NC.2, 3 NC.3, 4 NC.4, 5 NC.5, 6 R/B2n (out), 7 R/Bn (out), 8 ~{RE} (in), 9 ~{CE} (in), 10 ~{CE2} (in), 11 NC.11, 12 VCC.1 (power), 13 VSS.1 (power), 14 NC.14, 15 NC.15, 16 CLE (in), 17 ALE (in), 18 ~{WE} (in), 19 ~{WP} (in), 20 NC.20, 21 NC.21, 22 NC.22, 23 NC.23, 24 NC.24, 25 DNU.25, 26 DNU.26, 27 NC.27, 28 NC.28, 29 I/O0 (io), 30 I/O1 (io), 31 I/O2 (io), 32 I/O3 (io), 33 NC.33, 34 NC.34, 35 NC.35, 36 VSS.2 (power), 37 VCC.2 (power), 38 DNU/VSS (power), 39 NC.39, 40 NC.40, 41 I/O4 (io), 42 I/O5 (io), 43 I/O6 (io), 44 I/O7 (io), 45 NC.45, 46 NC.46, 47 NC.47, 48 DNU.48

## Nano WiReach
designator NW?  (value not drawn)
secure serial-to-  Wireless LAN device server module that also   acts as a bridge to connect serial devices to   802.11b/g Wireless LANs; Voltage - Maximum: 50V; Current - Maximum: 500mA; Vendor: Digikey; Publisher: Hoang Nguyen; Temperature Range - Operating: -40°C to +105°C; Termination Interface: Surface Mount; ComponentLink1Description: Digikey Part Link; Manufacturer: *; Published: 13-April-2009; ComponentLink2Description: Open Datasheet; ComponentLink2URL: H:\LIBRARY\LIBRARY.Datasheet\
footprint Nano WiReach (secure serial-to-  Wireless LAN device server module)
pins: 1, 2, 3, 4, 5, 6, 7, 8, 9, 10, 11, 12, 13, 14, 15, 16, 17, 18, 19, 20, 21, 22, 23, 24, 25, 26, 27, 28, 29, 30

## NANOBOARDLOGO48MM
designator ?  (graphical)
Altium Logo; Vendor: Digikey; Published: 5-Jan-2004; Publisher: Altium Limited; ComponentLink1Description: Digikey Part Link; ComponentLink2Description: Open Datasheet; ComponentLink2URL: H:\LIBRARY\LIBRARY.Datasheet\
footprint NanoBoard1_LOGO (NanoBoard Logo)
pcadlib NanoBoard1_LOGO (NanoBoard Logo)
text: Nanoboard LOGO - 48mm

## NPN Transitor
designator Q?
NPN General Purpose Amplifier; Published: 8-Jun-2000; LatestRevisionDate: 15-Jan-2003; LatestRevisionNote: PCB Footprint 'BCY-W3/D4.7' replaced; DatasheetDocument: 1997; PackageDocument: Sep-1998; PackageReference: TO-92A; Publisher: Altium Limited; Code_JEDEC: TO-92A; ComponentLink1Description: Manufacturer Link; ComponentLink1URL: http://www.fairchildsemi.com/; ComponentLink2Description: Datasheet; ComponentLink2URL: http://www.fairchildsemi.com/ds/2N%2F2N3904.pdf
footprint TO-92A (TO, Flat Index; 3 In-Line, Axial Leads; Body Dia. 4.5mm; Leads 0.51 x 0.48 mm (max); ECB Position); pin to pad 2>3 3>2
footprint TO-247 (TO-247; 3 Leads; Solder Pad 35mil)
footprint TO-3 (Oval Flange Mount with (2) Offset Leads; Pin Spacing 10.92 mm; Lead Dia. 1.06 mm (max))
footprint TO-220-3 (TO-220; 3 Leads; Solder Pad 35mil)
footprint TO-220-3-Heatsink (TO-220; Heatsink; 3 Leads; Solder Pad 35mil)
footprint TO-247-V (TO-247; Vertical; 3 Leads; Solder Pad 35mil)
pins: 1 E, 2 B, 3 C

## OL2380 Module
designator M?
NXP Radio module; Freq: *; Tx Power: *; Power Supply: *
footprint C1100 Module (TI Wireless Module)
footprint NXP RF Module (NXP Wireless Module)
pins: 1 VCC, 2 GND, 3 SDI, 4 SLK, 5 SDO, 6 P12, 7 INT, 8 SEN, 9 GND, 10 ANT, 11 GND
text: OL2380

## OPA2340UA
designator U?
Dual Operational Amplifier, Single-Supply, Rail-to-Rail; Vendor: Digikey; Published: 5-Jan-2004; DatasheetDocument: 03-Oct-2003; Publisher: Altium Limited; ComponentLink1Description: Digikey Part Link; ComponentLink2Description: Open Datasheet; ComponentLink2URL: H:\LIBRARY\LIBRARY.Datasheet\
footprint SO-G8 (Small Outline; 8 Leads; Body Width 3.5 mm; Pitch 1.27 mm)
pcadlib SO-G8 (Small Outline; 8 Leads; Body Width 3.5 mm; Pitch 1.27 mm)
pins: 1 OUT1 (out), 2 IN1- (in), 3 IN1+ (in), 4 GND (power), 5 IN2+ (in), 6 IN2- (in), 7 OUT2 (out), 8 VDD (power)

## Oscillator
designator Y?, comment 12Mhz
Sealed Clock Crystal Oscillator
footprint OSC (Sealed Oscillator; Through-Hole; 4 Leads)
footprint OSC-SMD (Sealed Oscillator; SMD; 4 Leads)
pins: 1 OFF, 2 GND, 3 CLK, 4 Vcc

## P89C51Rx2
designator U?  (value not drawn)
Atmel MCU; Manufacturer: NXP; Flash: Kb; SRAM: Bytes; Volt: V; CPU Speed (MIPS): 0 MIPS; ComponentLink1Description: Degikey Part link; ComponentLink2Description: Open DataSheet; ComponentLink2URL: H:\LIBRARY\LIBRARY.Datasheet\; Publisher: Hoang Nguyen
footprint DIP600-40 (DIP, Plastic; 40 Leads; Row Spacing 15.24 mm; Pitch 2.54 mm)
footprint PLCC-44_M (Leaded Chip Carrier, 44-Leads, Body 16.6x16.6mm, Pitch 1.27mm, IPC Low Density)
footprint PLCC44
footprint PLCC44N
footprint PLCC44N_withIC
pins: 1 P1.0 (io), 2 P1.1 (io), 3 P1.2 (io), 4 P1.3/PWM0 (io), 5 P1.4/PWM1 (io), 6 P1.5/PWM2 (io), 7 P1.6/PWM3 (io), 8 P1.7/PWM4 (io), 9 RST (in), 10 P3.0/RXD (io), 11 P3.1/TXD (io), 12 P3.2/~{INTO} (io), 13 P3.3/~{INT1} (io), 14 P3.4/TO (io), 15 P3.5/T1 (io), 16 P3.6/~{WR} (io), 17 P3.7/~{RD} (io), 18 XTAL1 (in), 19 XTAL2 (in), 20 GND (power), 21 P2.0/A8 (io), 22 P2.1/A9 (io), 23 P2.2/A10 (io), 24 P2.3/A11 (io), 25 P2.4/A12 (io), 26 P2.5/A13 (io), 27 P2.6/A14 (io), 28 P2.7/A15 (io), 29 ~{PSEN} (out), 30 ALE/~{PROG} (out), 31 ~{EA}/VPP (in), 32 P0.7/AD7 (io), 33 P0.6/AD6 (io), 34 P0.5/AD5 (io), 35 P0.4/AD4 (io), 36 P0.3/AD3 (io), 37 P0.2/AD2 (io), 38 P0.1/AD1 (io), 39 P0.0/AD0 (io), 40 VCC (power)

## P89V51RB2
designator *
footprint PLCC44.89
footprint PLCC44N
pins: 1 NC, 2 P1.0/T2 (io), 3 P1.1/T2EX (io), 4 P1.2/ECI (io), 5 P1.3/CEX0 (io), 6 P1.4/~{SS}/CEX1 (io), 7 P1.5/MOSI/CEX2 (io), 8 P1.6/MISO/CEX3 (io), 9 P1.7/SCK/CEX4 (io), 10 RST (io), 11 P3.0/RXD (io), 12 NC, 13 P3.1/TXD (io), 14 P3.2/~{INTO} (io), 15 P3.3/~{INT1} (io), 16 P3.4/T0 (io), 17 P3.5/T1 (io), 18 P3.6/~{WR} (io), 19 P3.7/~{RD} (io), 20 XTAL2 (power), 21 XTAL1, 22 GND (power), 23 NC, 24 P2.0/A8 (io), 25 P2.1/A9 (io), 26 P2.2/A10 (io), 27 P2.3/A11 (io), 28 P2.4/A12 (io), 29 P2.5/A13 (in), 30 P2.6/A14 (io), 31 P2.7/A15 (io), 32 ~{PSEN} (io), 33 ALE/~{PROG} (io), 34 NC, 35 EA, 36 P0.7/AD7 (io), 37 P0.6/AD6 (io), 38 P0.5/AD5 (io), 39 P0.4/AD4 (io), 40 P0.3/AD3 (io), 41 P0.2/AD2 (io), 42 P0.1/AD1 (io), 43 P0.0/AD0 (io), 44 VCC

## P89V51RD2
designator *
footprint PLCC44N
pins: 1 NC, 2 P1.0/T2 (io), 3 P1.1/T2EX (io), 4 P1.2/ECI (io), 5 P1.3/CEX0 (io), 6 P1.4/~{SS}/CEX1 (io), 7 P1.5/MOSI/CEX2 (io), 8 P1.6/MISO/CEX3 (io), 9 P1.7/SCK/CEX4 (io), 11 P3.0/RXD (io), 12 NC, 13 P3.1/TXD (io), 14 P3.2/~{INTO} (io), 15 P3.3/~{INT1} (io), 15 RST (io), 16 P3.4/T0 (io), 17 P3.5/T1 (io), 18 P3.6/~{WR} (io), 19 P3.7/~{RD} (io), 20 XTAL2 (power), 21 XTAL1, 22 GND (power), 23 NC, 24 P2.0/A8 (io), 25 P2.1/A9 (io), 26 P2.2/A10 (io), 27 P2.3/A11 (io), 28 P2.4/A12 (io), 29 P2.5/A13 (in), 30 P2.6/A14 (io), 31 P2.7/A15 (io), 32 ~{PSEN} (io), 33 ALE/~{PROG} (io), 34 NC, 35 EA, 36 P0.7/AD7 (io), 37 P0.6/AD6 (io), 38 P0.5/AD5 (io), 39 P0.4/AD4 (io), 40 P0.3/AD3 (io), 41 P0.2/AD2 (io), 42 P0.1/AD1 (io), 43 P0.0/AD0 (io), 44 VCC

## PC817
designator U?  (value not drawn)
Opto Couple; Vendor: Digikey; Fc: 80Khz; Published: 13-April-2009; Publisher: Hoang Nguyen; ComponentLink1Description: Digikey Part Link; ComponentLink2Description: Open Datasheet; ComponentLink2URL: H:\LIBRARY\LIBRARY.Datasheet\ds_PC817.pdf
footprint DIP4
footprint DIP4N
pins: 1, 2, 3, 4

## PCB_MOUNT_SWITCH
designator S?
SPDT Subminiature Toggle Switch, Right Angle Mounting, Vertical Actuation; Vendor: Digikey; Published: 5-Jan-2004; DatasheetDocument: 05-Dec-2000; Publisher: Altium Limited; ComponentLink1Description: Digikey Part Link; ComponentLink2Description: Open Datasheet; ComponentLink2URL: H:\LIBRARY\LIBRARY.Datasheet\
footprint TL36WW15050 (SPDT Subminiature Toggle Switch, Right Angle Mounting, Vertical Actuation)
pcadlib TL36WW15050 (SPDT Subminiature Toggle Switch, Right Angle Mounting, Vertical Actuation)
pins: 1, 2, 3

## PCM2902
designator U?
Stereo Audio Codec With Usb Interface, Single-Ended Analog Input/Output And S/PDIF
footprint DIP-28N (DIP; 28 Leads; Row Spacing 15.24 mm; Pitch 2.54 mm)
footprint SOP-10.2x5.3-0.65-28 (SOP, 28-Leads, Body 10.2x5.3mm, Pitch 0.65mm, IPC Low Density)
pins: 1 D+ (power), 2 D-, 3 VBUS, 4 DGNDU, 5 HID0, 6 HID1, 7 HID2, 8 SEL0, 9 SEL1, 10 VCCCI, 11 AGNDC, 12 VINL, 13 VINR, 14 VCOM, 15 VOUTR, 16 VOUTL, 17 VCCP1I, 18 AGNDP, 19 VCCP2I, 20 XTO, 21 XTI, 22 AGNDX, 23 VCCXI, 24 DIN, 25 DOUT, 26 DGND, 27 VDDI, 28 SSPND

## PI5C3384
designator U?
ComponentLink1Description: Digikey Part Link; ComponentLink2Description: Open Datasheet; ComponentLink2URL: H:\LIBRARY\LIBRARY.Datasheet\
pins: 1 BEA- (in), 2 B0 (io), 3 A0 (io), 4 A1 (io), 5 B1 (io), 6 B2 (io), 7 A2 (io), 8 A3 (io), 9 B3 (io), 10 B4 (io), 11 A4 (io), 12 GND (power) hidden to GND, 13 BEB- (in), 14 A5 (io), 15 B5 (io), 16 B6 (io), 17 A6 (io), 18 A7 (io), 19 B7 (io), 20 B8 (io), 21 A8 (io), 22 A9 (io), 23 B9 (io), 24 VCC (in)

## PIC16F84A-04/SS
designator U?
Enhanced FLASH/EEPROM 8-Bit Microcontroller, 1K (x14-Bit words) FLASH, 68 Bytes RAM, 4 MHz, 20-Pin SSOP, Standard VDD Range, Commercial Temperature; Manufacturer: MicroChip; Note: 25mA source and sink per I/O.; Flash: Kb; Volt: V; CPU Speed (MIPS): 0 MIPS; Published: 11-Oct-2004; LatestRevisionDate: 04-Mar-2005; LatestRevisionNote: Stylized 3D Model Added.; DatasheetVersion: DS35007B_2001; PackageVersion: 2003; PackageReference: SSOP-20; Publisher: Altium Limited; PackageDescription: SSOP, Plastic; 20 Leads; Body Width 5.3 mm; Pitch 0.65 mm; Code_JEDEC: MO-150; ComponentLink1Description: Manufacturer Link; ComponentLink1URL: http://www.microchip.com; ComponentLink2Description: Open DataSheet; ComponentLink2URL: http://ww1.microchip.com/downloads/en/DeviceDoc/35007b.pdf; ComponentLink3Description: Packaging Specification; ComponentLink3URL: http://ww1.microchip.com/downloads/en/PackagingSpec/00049AD.pdf; SRAM: Bytes
footprint SSOP-20 (SSOP, Plastic; 20 Leads; Body Width 5.3 mm; Pitch 0.65 mm)
3D model SSOP-20 (SSOP, Plastic; 20 Leads; Body Width 5.3 mm; Pitch 0.65 mm)
pins: 1 RA2 (io), 2 RA3 (io), 3 RA4/T0CKI (io), 4 ~{MCLR} (in), 5 VSS (power), 6 VSS (power), 7 RB0/INT (io), 8 RB1 (io), 9 RB2 (io), 10 RB3 (io), 11 RB4 (io), 12 RB5 (io), 13 RB6 (io), 14 RB7 (io), 15 VDD (power), 16 VDD (power), 17 OSC2/CLKOUT (out), 18 OSC1/CLKIN (in), 19 RA0 (io), 20 RA1 (io)

## PIC16F84A-04E/P
designator U?
Enhanced FLASH/EEPROM 8-Bit Microcontroller, 1K (x14-Bit words) FLASH, 68 Bytes RAM, 4 MHz, 18-Pin PDIP, Standard VDD Range, Extended Temperature; Manufacturer: MicroChip; Note: 25mA source and sink per I/O.; Flash: Kb; Volt: V; CPU Speed (MIPS): 0 MIPS; Published: 11-Oct-2004; LatestRevisionDate: 04-Mar-2005; LatestRevisionNote: Stylized 3D Model Added.; DatasheetVersion: DS35007B_2001; PackageVersion: 2003; PackageReference: PDIP300-18; Publisher: Altium Limited; PackageDescription: DIP, Plastic; 18 Leads; Row Spacing 7.62 mm; Pitch 2.54 mm; Code_JEDEC: MS-001; ComponentLink1Description: Manufacturer Link; ComponentLink1URL: http://www.microchip.com; ComponentLink2Description: Open DataSheet; ComponentLink2URL: http://ww1.microchip.com/downloads/en/DeviceDoc/35007b.pdf; ComponentLink3Description: Packaging Specification; ComponentLink3URL: http://ww1.microchip.com/downloads/en/PackagingSpec/00049AD.pdf; SRAM: Bytes
footprint PDIP300-18 (DIP, Plastic; 18 Leads; Row Spacing 7.62 mm; Pitch 2.54 mm)
3D model PDIP300-18 (DIP, Plastic; 18 Leads; Row Spacing 7.62 mm; Pitch 2.54 mm)
pins: 1 RA2 (io), 2 RA3 (io), 3 RA4/T0CKI (io), 4 ~{MCLR} (in), 5 VSS (power), 6 RB0/INT (io), 7 RB1 (io), 8 RB2 (io), 9 RB3 (io), 10 RB4 (io), 11 RB5 (io), 12 RB6 (io), 13 RB7 (io), 14 VDD (power), 15 OSC2/CLKOUT (out), 16 OSC1/CLKIN (in), 17 RA0 (io), 18 RA1 (io)

## PIC16F84A-04E/SO
designator U?
Enhanced FLASH/EEPROM 8-Bit Microcontroller, 1K (x14-Bit words) FLASH, 68 Bytes RAM, 4 MHz, 18-Pin SOIC, Standard VDD Range, Extended Temperature; Manufacturer: MicroChip; Note: 25mA source and sink per I/O.; Flash: Kb; Volt: V; CPU Speed (MIPS): 0 MIPS; Published: 11-Oct-2004; LatestRevisionDate: 13-Apr-2006; LatestRevisionNote: IPC-7351 Footprint Added.; DatasheetVersion: DS35007B_2001; PackageVersion: 2003; PackageReference: SOIC300-18; Publisher: Altium Limited; PackageDescription: 18-Pin Small Outline Integrated Circuit 1.27 mm Pitch; Code_JEDEC: MS-013; ComponentLink1Description: Manufacturer Link; ComponentLink1URL: http://www.microchip.com; ComponentLink2Description: Open DataSheet; ComponentLink2URL: http://ww1.microchip.com/downloads/en/DeviceDoc/35007b.pdf; ComponentLink3Description: Packaging Specification; ComponentLink3URL: http://ww1.microchip.com/downloads/en/PackagingSpec/00049AD.pdf; SRAM: Bytes
footprint SOIC300-18_N (SOIC, 18-Leads, Body 11.5x7.5mm, Pitch 1.27mm, IPC Medium Density)
footprint SOIC300-18_L (SOIC, 18-Leads, Body 11.5x7.5mm, Pitch 1.27mm, IPC High Density)
footprint SOIC300-18_M (SOIC, 18-Leads, Body 11.5x7.5mm, Pitch 1.27mm, IPC Low Density)
3D model SOIC300-18 (18-Pin Small Outline Integrated Circuit 1.27 mm Pitch)
pins: 1 RA2 (io), 2 RA3 (io), 3 RA4/T0CKI (io), 4 ~{MCLR} (in), 5 VSS (power), 6 RB0/INT (io), 7 RB1 (io), 8 RB2 (io), 9 RB3 (io), 10 RB4 (io), 11 RB5 (io), 12 RB6 (io), 13 RB7 (io), 14 VDD (power), 15 OSC2/CLKOUT (out), 16 OSC1/CLKIN (in), 17 RA0 (io), 18 RA1 (io)

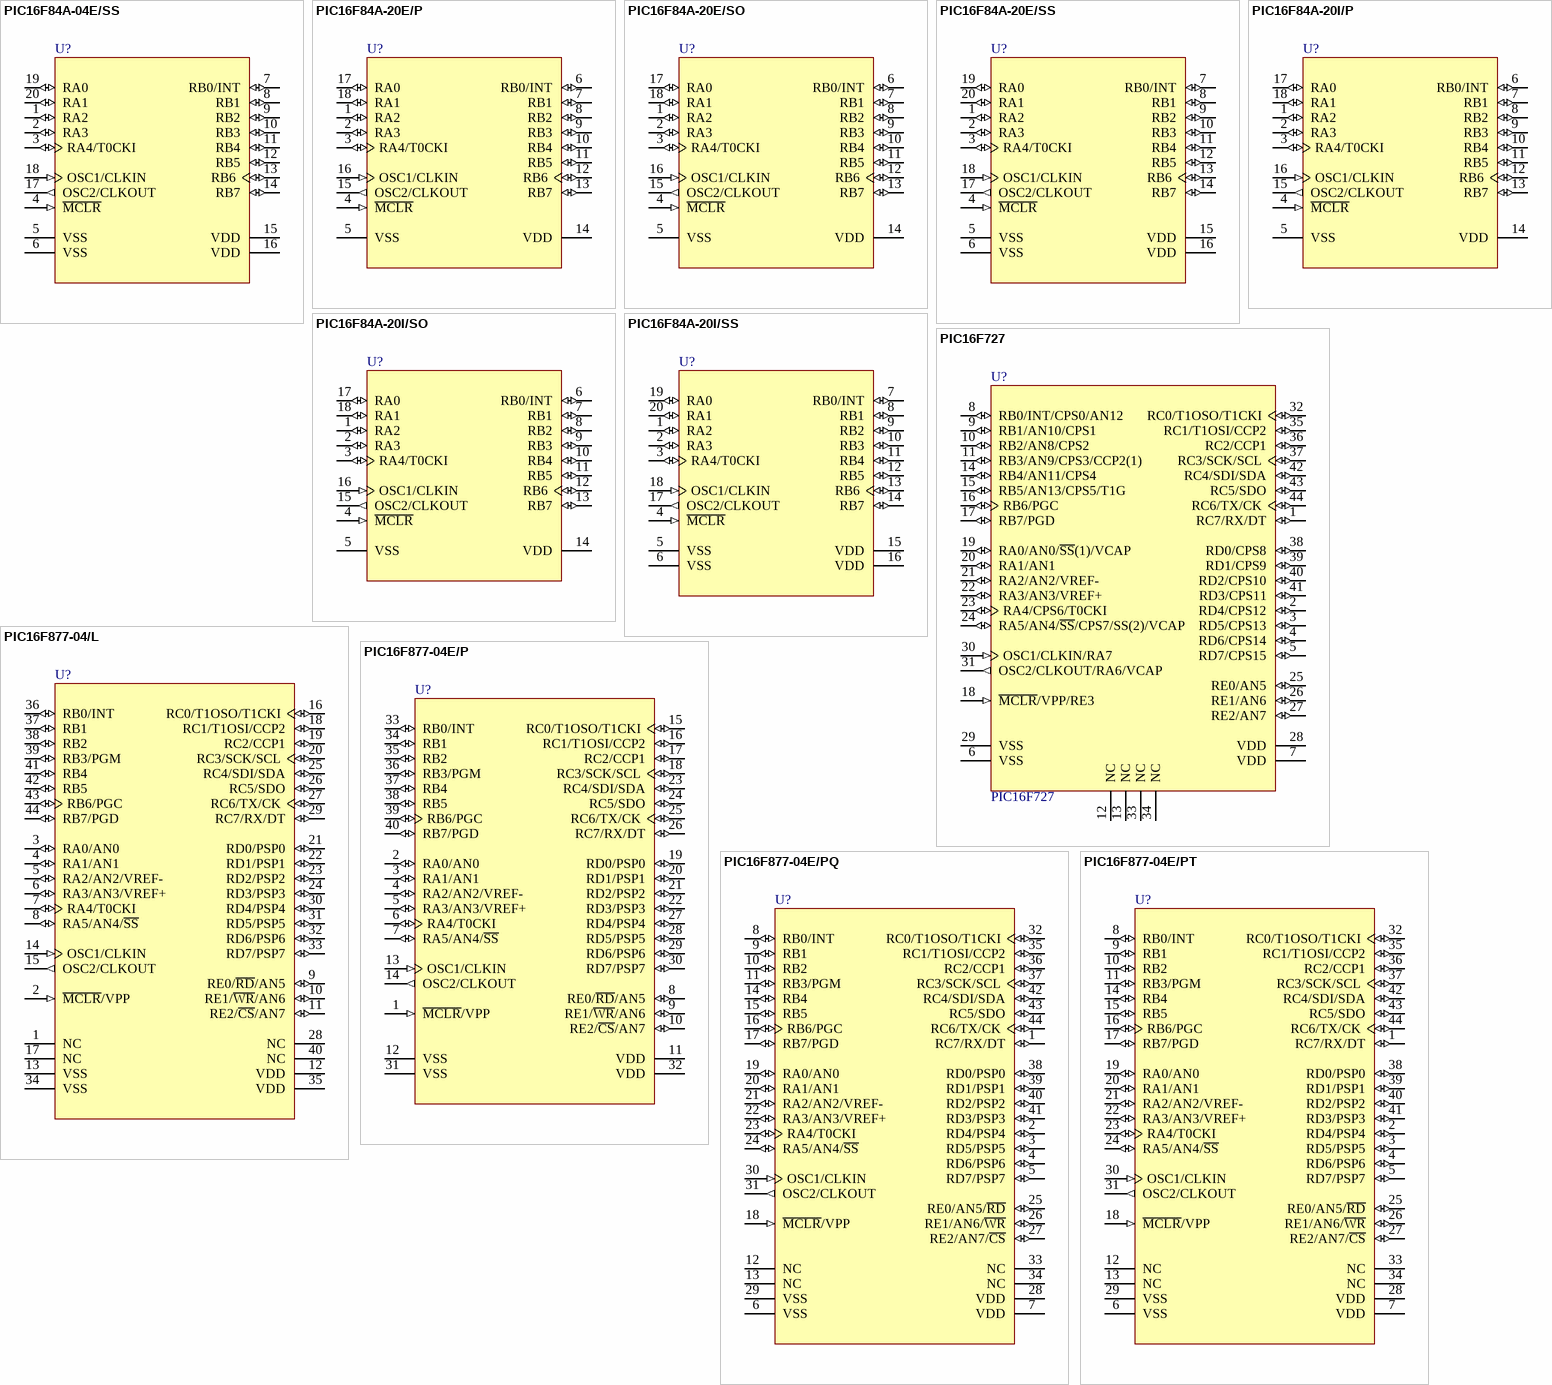
[diagram p19: symbols PIC16F84A-04E/SS to PIC16F877-04E/PT]

## PIC16F84A-04E/SS
designator U?
Enhanced FLASH/EEPROM 8-Bit Microcontroller, 1K (x14-Bit words) FLASH, 68 Bytes RAM, 4 MHz, 20-Pin SSOP, Standard VDD Range, Extended Temperature; Manufacturer: MicroChip; Note: 25mA source and sink per I/O.; Flash: Kb; Volt: V; CPU Speed (MIPS): 0 MIPS; Published: 11-Oct-2004; LatestRevisionDate: 04-Mar-2005; LatestRevisionNote: Stylized 3D Model Added.; DatasheetVersion: DS35007B_2001; PackageVersion: 2003; PackageReference: SSOP-20; Publisher: Altium Limited; PackageDescription: SSOP, Plastic; 20 Leads; Body Width 5.3 mm; Pitch 0.65 mm; Code_JEDEC: MO-150; ComponentLink1Description: Manufacturer Link; ComponentLink1URL: http://www.microchip.com; ComponentLink2Description: Open DataSheet; ComponentLink2URL: http://ww1.microchip.com/downloads/en/DeviceDoc/35007b.pdf; ComponentLink3Description: Packaging Specification; ComponentLink3URL: http://ww1.microchip.com/downloads/en/PackagingSpec/00049AD.pdf; SRAM: Bytes
footprint SSOP-20 (SSOP, Plastic; 20 Leads; Body Width 5.3 mm; Pitch 0.65 mm)
3D model SSOP-20 (SSOP, Plastic; 20 Leads; Body Width 5.3 mm; Pitch 0.65 mm)
pins: 1 RA2 (io), 2 RA3 (io), 3 RA4/T0CKI (io), 4 ~{MCLR} (in), 5 VSS (power), 6 VSS (power), 7 RB0/INT (io), 8 RB1 (io), 9 RB2 (io), 10 RB3 (io), 11 RB4 (io), 12 RB5 (io), 13 RB6 (io), 14 RB7 (io), 15 VDD (power), 16 VDD (power), 17 OSC2/CLKOUT (out), 18 OSC1/CLKIN (in), 19 RA0 (io), 20 RA1 (io)

## PIC16F84A-20E/P
designator U?
Enhanced FLASH/EEPROM 8-Bit Microcontroller, 1K (x14-Bit words) FLASH, 68 Bytes RAM, 20 MHz, 18-Pin PDIP, Standard VDD Range, Extended Temperature; Manufacturer: MicroChip; Note: 25mA source and sink per I/O.; Flash: Kb; Volt: V; CPU Speed (MIPS): 0 MIPS; Published: 11-Oct-2004; LatestRevisionDate: 04-Mar-2005; LatestRevisionNote: Stylized 3D Model Added.; DatasheetVersion: DS35007B_2001; PackageVersion: 2003; PackageReference: PDIP300-18; Publisher: Altium Limited; PackageDescription: DIP, Plastic; 18 Leads; Row Spacing 7.62 mm; Pitch 2.54 mm; Code_JEDEC: MS-001; ComponentLink1Description: Manufacturer Link; ComponentLink1URL: http://www.microchip.com; ComponentLink2Description: Open DataSheet; ComponentLink2URL: http://ww1.microchip.com/downloads/en/DeviceDoc/35007b.pdf; ComponentLink3Description: Packaging Specification; ComponentLink3URL: http://ww1.microchip.com/downloads/en/PackagingSpec/00049AD.pdf; SRAM: Bytes
footprint PDIP300-18 (DIP, Plastic; 18 Leads; Row Spacing 7.62 mm; Pitch 2.54 mm)
3D model PDIP300-18 (DIP, Plastic; 18 Leads; Row Spacing 7.62 mm; Pitch 2.54 mm)
pins: 1 RA2 (io), 2 RA3 (io), 3 RA4/T0CKI (io), 4 ~{MCLR} (in), 5 VSS (power), 6 RB0/INT (io), 7 RB1 (io), 8 RB2 (io), 9 RB3 (io), 10 RB4 (io), 11 RB5 (io), 12 RB6 (io), 13 RB7 (io), 14 VDD (power), 15 OSC2/CLKOUT (out), 16 OSC1/CLKIN (in), 17 RA0 (io), 18 RA1 (io)

## PIC16F84A-20E/SO
designator U?
Enhanced FLASH/EEPROM 8-Bit Microcontroller, 1K (x14-Bit words) FLASH, 68 Bytes RAM, 20 MHz, 18-Pin SOIC, Standard VDD Range, Extended Temperature; Manufacturer: MicroChip; Note: 25mA source and sink per I/O.; Flash: Kb; Volt: V; CPU Speed (MIPS): 0 MIPS; Published: 11-Oct-2004; LatestRevisionDate: 13-Apr-2006; LatestRevisionNote: IPC-7351 Footprint Added.; DatasheetVersion: DS35007B_2001; PackageVersion: 2003; PackageReference: SOIC300-18; Publisher: Altium Limited; PackageDescription: 18-Pin Small Outline Integrated Circuit 1.27 mm Pitch; Code_JEDEC: MS-013; ComponentLink1Description: Manufacturer Link; ComponentLink1URL: http://www.microchip.com; ComponentLink2Description: Open DataSheet; ComponentLink2URL: http://ww1.microchip.com/downloads/en/DeviceDoc/35007b.pdf; ComponentLink3Description: Packaging Specification; ComponentLink3URL: http://ww1.microchip.com/downloads/en/PackagingSpec/00049AD.pdf; SRAM: Bytes
footprint SOIC300-18_N (SOIC, 18-Leads, Body 11.5x7.5mm, Pitch 1.27mm, IPC Medium Density)
footprint SOIC300-18_L (SOIC, 18-Leads, Body 11.5x7.5mm, Pitch 1.27mm, IPC High Density)
footprint SOIC300-18_M (SOIC, 18-Leads, Body 11.5x7.5mm, Pitch 1.27mm, IPC Low Density)
3D model SOIC300-18 (18-Pin Small Outline Integrated Circuit 1.27 mm Pitch)
pins: 1 RA2 (io), 2 RA3 (io), 3 RA4/T0CKI (io), 4 ~{MCLR} (in), 5 VSS (power), 6 RB0/INT (io), 7 RB1 (io), 8 RB2 (io), 9 RB3 (io), 10 RB4 (io), 11 RB5 (io), 12 RB6 (io), 13 RB7 (io), 14 VDD (power), 15 OSC2/CLKOUT (out), 16 OSC1/CLKIN (in), 17 RA0 (io), 18 RA1 (io)

## PIC16F84A-20E/SS
designator U?
Enhanced FLASH/EEPROM 8-Bit Microcontroller, 1K (x14-Bit words) FLASH, 68 Bytes RAM, 20 MHz, 20-Pin SSOP, Standard VDD Range, Extended Temperature; Manufacturer: MicroChip; Note: 25mA source and sink per I/O.; Flash: Kb; Volt: V; CPU Speed (MIPS): 0 MIPS; Published: 11-Oct-2004; LatestRevisionDate: 04-Mar-2005; LatestRevisionNote: Stylized 3D Model Added.; DatasheetVersion: DS35007B_2001; PackageVersion: 2003; PackageReference: SSOP-20; Publisher: Altium Limited; PackageDescription: SSOP, Plastic; 20 Leads; Body Width 5.3 mm; Pitch 0.65 mm; Code_JEDEC: MO-150; ComponentLink1Description: Manufacturer Link; ComponentLink1URL: http://www.microchip.com; ComponentLink2Description: Open DataSheet; ComponentLink2URL: http://ww1.microchip.com/downloads/en/DeviceDoc/35007b.pdf; ComponentLink3Description: Packaging Specification; ComponentLink3URL: http://ww1.microchip.com/downloads/en/PackagingSpec/00049AD.pdf; SRAM: Bytes
footprint SSOP-20 (SSOP, Plastic; 20 Leads; Body Width 5.3 mm; Pitch 0.65 mm)
3D model SSOP-20 (SSOP, Plastic; 20 Leads; Body Width 5.3 mm; Pitch 0.65 mm)
pins: 1 RA2 (io), 2 RA3 (io), 3 RA4/T0CKI (io), 4 ~{MCLR} (in), 5 VSS (power), 6 VSS (power), 7 RB0/INT (io), 8 RB1 (io), 9 RB2 (io), 10 RB3 (io), 11 RB4 (io), 12 RB5 (io), 13 RB6 (io), 14 RB7 (io), 15 VDD (power), 16 VDD (power), 17 OSC2/CLKOUT (out), 18 OSC1/CLKIN (in), 19 RA0 (io), 20 RA1 (io)